# Altium schematic symbol library ICs.SchLib: 131 symbols
Pins are listed as number, name and electrical type; pins without a type are passive.

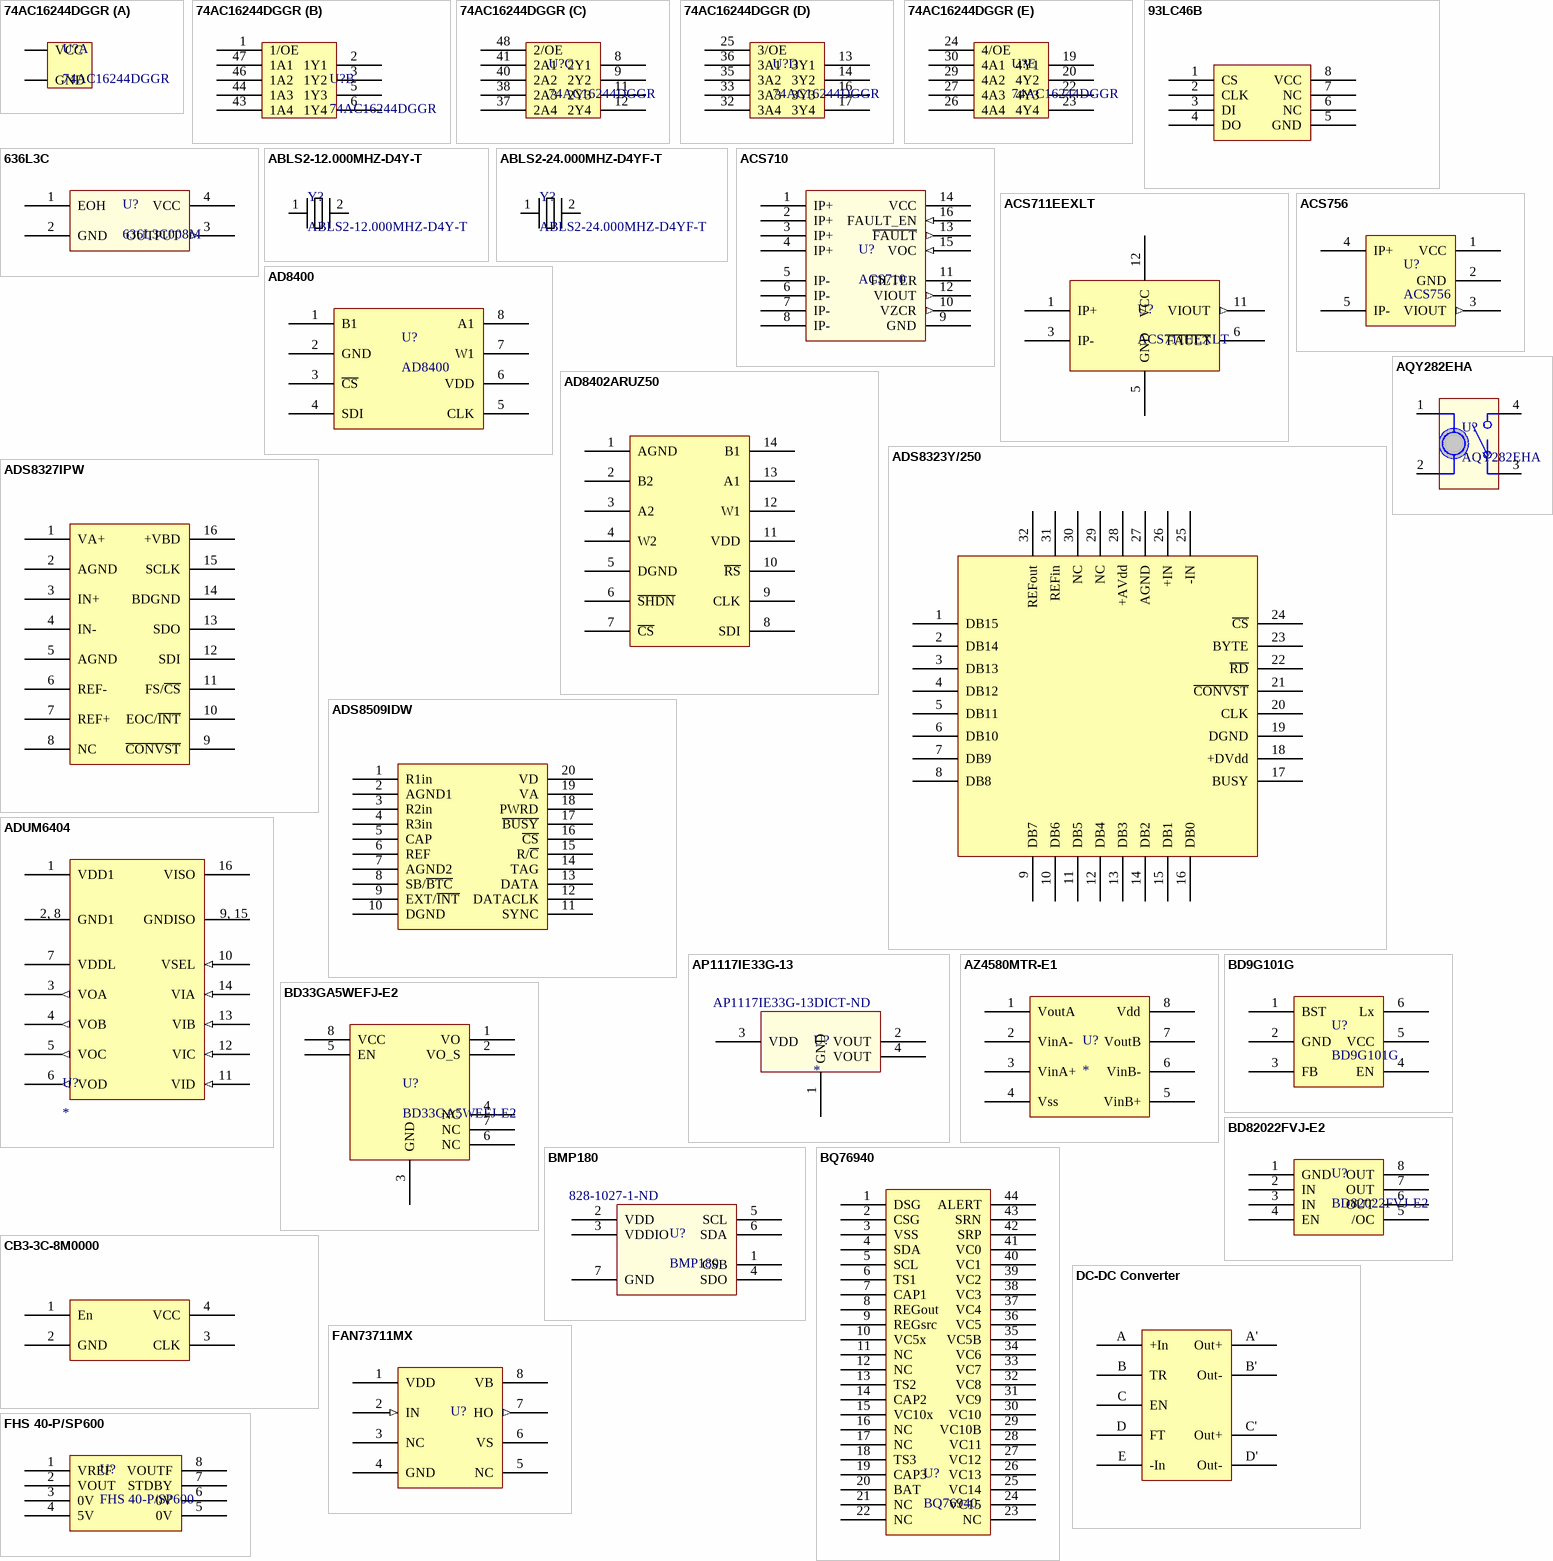
[diagram p0: symbols 74AC16244DGGR to FHS 40-P/SP600]

## 74AC16244DGGR
designator U?
IC BUFF/DVR TRI-ST 16BIT 48TSSOP; Supplier 1: Digi-Key; Supplier Part Number 1: 296-15845-1-ND
footprint 74AC16244DGGR (TSSOP, 48-Leads, Body 12.50x6.10mm, Pitch 0.50mm, IPC Medium Density)
part A pins: GND, VCC
part B pins: 1 1/OE, 2 1Y1, 3 1Y2, 5 1Y3, 6 1Y4, 43 1A4, 44 1A3, 46 1A2, 47 1A1
part C pins: 8 2Y1, 9 2Y2, 11 2Y3, 12 2Y4, 37 2A4, 38 2A3, 40 2A2, 41 2A1, 48 2/OE
part D pins: 13 3Y1, 14 3Y2, 16 3Y3, 17 3Y4, 25 3/OE, 32 3A4, 33 3A3, 35 3A2, 36 3A1
part E pins: 19 4Y1, 20 4Y2, 22 4Y3, 23 4Y4, 24 4/OE, 26 4A4, 27 4A3, 29 4A2, 30 4A1

## 93LC46B
designator U?
IC EEPROM 1KBIT 2MHZ 8SOIC; Supplier 1: Digi-Key; Supplier Part Number 1: 93LC46BT-I/SNCT-ND
footprint SOIC-8pin (For 296-1345-1-ND)
pins: 1 CS, 2 CLK, 3 DI, 4 DO, 5 GND, 6 NC, 7 NC, 8 VCC

## 636L3C
designator U?, comment 636L3C008M
HCMOS/TTL Clock Oscillator; Supplier 1: Digi-Key; Supplier Part Number 1: CTX1005CT-ND
footprint 636L3C
pins: 1 EOH, 2 GND (power), 3 OUTPUT (out), 4 VCC (power)

## ABLS2-12.000MHZ-D4Y-T
designator Y?
12MHz ±30ppm Crystal 18pF 50 Ohm -40°C ~ 85°C Surface Mount HC49/US; Supplier 1: Digi-Key; Supplier Part Number 1: 535-9869-1-ND
footprint HC49/US
pins: 1, 2

## ABLS2-24.000MHZ-D4YF-T
designator Y?
24MHz ±30ppm Crystal 18pF 40 Ohm -40°C ~ 85°C Surface Mount HC49/US; Supplier 1: Digi-Key; Supplier Part Number 1: 535-9881-1-ND
footprint HC49/US
pins: 1, 2

## ACS710
designator U?
Current Sensor with Integrated Overcurrent Detection; Supplier 1: Digi-Key; Supplier Part Number 1: 620-1334-1-ND
footprint ACS710 (SOIC, 16-Leads, Body 10.5x7.6mm (max), Pitch 1.27mm, IPC Medium Density)
footprint ACS710_NOPIN (Hacked footprint to make battery board look nice.)
pins: 1 IP+, 2 IP+, 3 IP+, 4 IP+, 5 IP-, 6 IP-, 7 IP-, 8 IP-, 9 GND (power), 10 VZCR (out), 11 FILTER, 12 VIOUT (out), 13 ~{FAULT} (out), 14 VCC (power), 15 VOC (in), 16 FAULT_EN (in)

## ACS711EEXLT
designator U?
Hall Effect Linear Current Sensor with Overcurrent  Fault Output for < 100 V Isolation Applications; Supplier 1: Digi-Key; Supplier Part Number 1: 620-1484-1-ND
footprint ACS711KEXLT
pins: 1 IP+, 3 IP-, 5 GND, 6 ~{FAULT} (oc), 11 VIOUT (out), 12 VCC (power)

## ACS756
designator U?
Hall Effect-Based Linear Current Sensor IC; Supplier 1: Digi-Key; Supplier Part Number 1: 620-1239-ND
footprint ACS756 (Hall Effect-Based Linear Current Sensor)
pins: 1 VCC (power), 2 GND (power), 3 VIOUT (out), 4 IP+, 5 IP-

## AD8400
designator U?
IC DGTL POT 8BIT 100K 1CH 8-SOIC; Supplier 1: Digi-Key; Supplier Part Number 1: AD8400ARZ100-ND
footprint SOIC-8PIN (For 296-1345-1-ND)
pins: 1 B1, 2 GND, 3 ~{CS}, 4 SDI, 5 CLK, 6 VDD, 7 W1, 8 A1

## AD8402ARUZ50
designator U?, comment 50k Pot
IC POT DIG DUAL 50K 8BIT 14TSSOP; Supplier 1: Digi-Key; Supplier Part Number 1: AD8402ARUZ50-ND
footprint TSSOP-14 (For AD8402ARUZ50-ND (Digital Pot))
pins: 1 AGND, 2 B2, 3 A2, 4 W2, 5 DGND, 6 ~{SHDN}, 7 ~{CS}, 8 SDI, 9 CLK, 10 ~{RS}, 11 VDD, 12 W1, 13 A1, 14 B1

## ADS8323Y/250
designator U?, comment ADC 16bit 500kHz
IC A/D CONV 16BIT BIPLR 32-TQFP; Supplier 1: Digi-Key; Supplier Part Number 1: ADS8323Y/250CT-ND
footprint 32-TQFP (Used for 16 bit external ADC)
pins: 1 DB15, 2 DB14, 3 DB13, 4 DB12, 5 DB11, 6 DB10, 7 DB9, 8 DB8, 9 DB7, 10 DB6, 11 DB5, 12 DB4, 13 DB3, 14 DB2, 15 DB1, 16 DB0, 17 BUSY, 18 +DVdd, 19 DGND, 20 CLK, 21 ~{CONVST}, 22 ~{RD}, 23 BYTE, 24 ~{CS}, 25 -IN, 26 +IN, 27 AGND, 28 +AVdd, 29 NC, 30 NC, 31 REFin, 32 REFout

## ADS8327IPW
designator U?
IC ADC 16BIT 500KSPS 16-TSSOP; Supplier 1: Digi-Key; Supplier Part Number 1: 296-19764-ND
footprint TSSOP-16pin (For 296-19764-ND)
pins: 1 VA+, 2 AGND, 3 IN+, 4 IN-, 5 AGND, 6 REF-, 7 REF+, 8 NC, 9 ~{CONVST}, 10 EOC/~{INT}, 11 FS/~{CS}, 12 SDI, 13 SDO, 14 BDGND, 15 SCLK, 16 +VBD

## ADS8509IDW
designator U?
IC ADC 16BIT 250KSPS SRL 20SOIC; Suppiler Part Number 1: 296-18087-5-ND; Supplier 1: Digi-Key
footprint SOIC-20pin (For 296-18087-5-ND)
pins: 1 R1in, 2 AGND1, 3 R2in, 4 R3in, 5 CAP, 6 REF, 7 AGND2, 8 SB/~{BTC}, 9 EXT/~{INT}, 10 DGND, 11 SYNC, 12 DATACLK, 13 DATA, 14 TAG, 15 R/~{C}, 16 ~{CS}, 17 ~{BUSY}, 18 PWRD, 19 VA, 20 VD

## ADUM6404
designator U?
Digital Isolator, 4 channel, with isolated power
footprint SOIC127P1030X265-16N (SOIC, 16-Leads, Body 10.30x7.50mm, Pitch 1.27mm, IPC Medium Density)
pins: 1 VDD1 (power), 2 GND1 (power), 3 VOA (out), 4 VOB (out), 5 VOC (out), 6 VOD (out), 7 VDDL (power), 8 GND1 (power), 9 GNDISO (power), 10 VSEL (in), 11 VID (in), 12 VIC (in), 13 VIB (in), 14 VIA (in), 15 GNDISO (power), 16 VISO
text: 2, 8; 9, 15

## AP1117IE33G-13
designator U?  Supplier Part Number 1: AP1117IE33G-13DICT-ND
3.3V 1A DROPOUT POSITIVE ADJUSTABLE OR FIXED-MODE REGULATOR; Supplier 1: Digi-Key
footprint AP1117IE33G-13 (SOT223, 4-Leads, Body 6.6x7.1mm (max), Pitch 2.30mm, IPC Medium Density)
pins: 1 GND (power), 2 VOUT (power), 3 VDD (power), 4 VOUT (power)

## AQY282EHA
designator U?
PhotoMOS Solid State Relay; Supplier 1: Digi-Key; Supplier Part Number 1: AQY282EHA-ND
footprint AQY282EHA (SOP, 4-Leads, Body 4.3x4.6mm (max), Pitch 2.54mm, IPC Medium Density)
pins: 1 A, 2 C, 3 S2, 4 S1

## AZ4580MTR-E1
designator U?
IC OPAMP GEN PURP SO-8; Supplier 1: Digi-Key; Supplier Part Number 1: AZ4580MTR-E1DICT-ND
footprint 8-SOIC (Used for LMH6612)
pins: 1 VoutA, 2 VinA-, 3 VinA+, 4 Vss, 5 VinB+, 6 VinB-, 7 VoutB, 8 Vdd

## BD9G101G
designator U?
Simple Step-down Switching Regulators with Built-in Power MOSFET; Supplier 1: Digi-Key; Supplier Part Number 1: BD9G101G-CT-ND
footprint BD9G101G (Simple Step-down Switching Regulators with Built-in Power MOSFET)
pins: 1 BST, 2 GND, 3 FB, 4 EN, 5 VCC, 6 Lx

## BD33GA5WEFJ-E2
designator U?
IC REG LDO 3.3V 0.5A 8HTSOP-J; Supplier 1: Digi-Key; Supplier Part Number 1: BD33GA5WEFJ-E2CT-ND
footprint BD33GA5WEFJ-E2 (IC REG LDO 3.3V 0.5A 8HTSOP-J)
pins: 1 VO, 2 VO_S, 3 GND, 4 NC, 5 EN, 6 NC, 7 NC, 8 VCC

## BD82022FVJ-E2
designator U?
IC USB PWR SW HI SIDE 1CH 8TSSOP; Manufacturer 1: Rohm Semiconductor; Manufacturer Part Number 1: BD82022FVJ-E2; Supplier Part Number 1: BD82022FVJ-E2CT-ND; Supplier 1: Digi-Key
footprint TSSOP-8 (TSOP, 8-Leads, Body 3.00x3.00mm, Pitch 0.65mm, IPC Medium Density)
pins: 1 GND, 2 IN, 3 IN, 4 EN, 5 /OC, 6 OUT, 7 OUT, 8 OUT

## BMP180
designator U?  Supplier Part Number 1: 828-1027-1-ND
Digital Pressure Sensor; Supplier 1: Digi-Key
footprint BMP180
pins: 1 CSB, 2 VDD (power), 3 VDDIO (power), 4 SDO, 5 SCL, 6 SDA, 7 GND (power)

## BQ76940
designator U?
IC BATT MFMT LI-ION AFE 44TSOP; Supplier 1: Digi-Key; Supplier Part Number 1: 296-37789-5-ND
footprint BQ7694003DBT (TSSOP, 44-Leads, Body 11.15x4.40mm, Pitch 0.50mm, IPC Medium Density)
pins: 1 DSG, 2 CSG, 3 VSS, 4 SDA, 5 SCL, 6 TS1, 7 CAP1, 8 REGout, 9 REGsrc, 10 VC5x, 11 NC, 12 NC, 13 TS2, 14 CAP2, 15 VC10x, 16 NC, 17 NC, 18 TS3, 19 CAP3, 20 BAT, 21 NC, 22 NC, 23 NC, 24 VC15, 25 VC14, 26 VC13, 27 VC12, 28 VC11, 29 VC10B, 30 VC10, 31 VC9, 32 VC8, 33 VC7, 34 VC6, 35 VC5B, 36 VC5, 37 VC4, 38 VC3, 39 VC2, 40 VC1, 41 VC0, 42 SRP, 43 SRN, 44 ALERT

## CB3-3C-8M0000
designator U?, comment 8MHz Oscillator
OSC XO 8.000MHZ HCMOS TTL SMD; Supplier 1: Digi-Key; Supplier Part Number 1: CTX264CT-ND
footprint 4-SMD (For 8MHz Oscillator)
pins: 1 En, 2 GND, 3 CLK, 4 VCC

## DC-DC Converter
designator U?
28V Switching Regulator; Manufacturer 1: Vicorpower; Manufacturer Part Number 1: DCM48AP280T320A50
footprint DCM Footprint (For DC-DC Converter Module)
pins: A +In, A' Out+, B TR, B' Out-, C EN, C' Out+, D FT, D' Out-, E -In

## FAN73711MX
designator U?  (value not drawn)
High current, High-side gate drive IC; Supplier 1: Digi-Key; Supplier Part Number 1: FAN73711MXDKR-ND
footprint FAN73711MXCT (High side FET driver)
pins: 1 VDD, 2 IN (in), 3 NC, 4 GND, 5 NC, 6 VS, 7 HO (out), 8 VB

## FHS 40-P/SP600
designator U?
Supplier 1: Digi-Key; Supplier Part Number 1: 398-1057-1-ND
footprint FHS 40-P/SP600 (SENSOR CURRENT 100A 5V BI 8SOIC)
pins: 1 VREF, 2 VOUT, 3 0V, 4 5V, 5 0V, 6 0V, 7 STDBY, 8 VOUTF

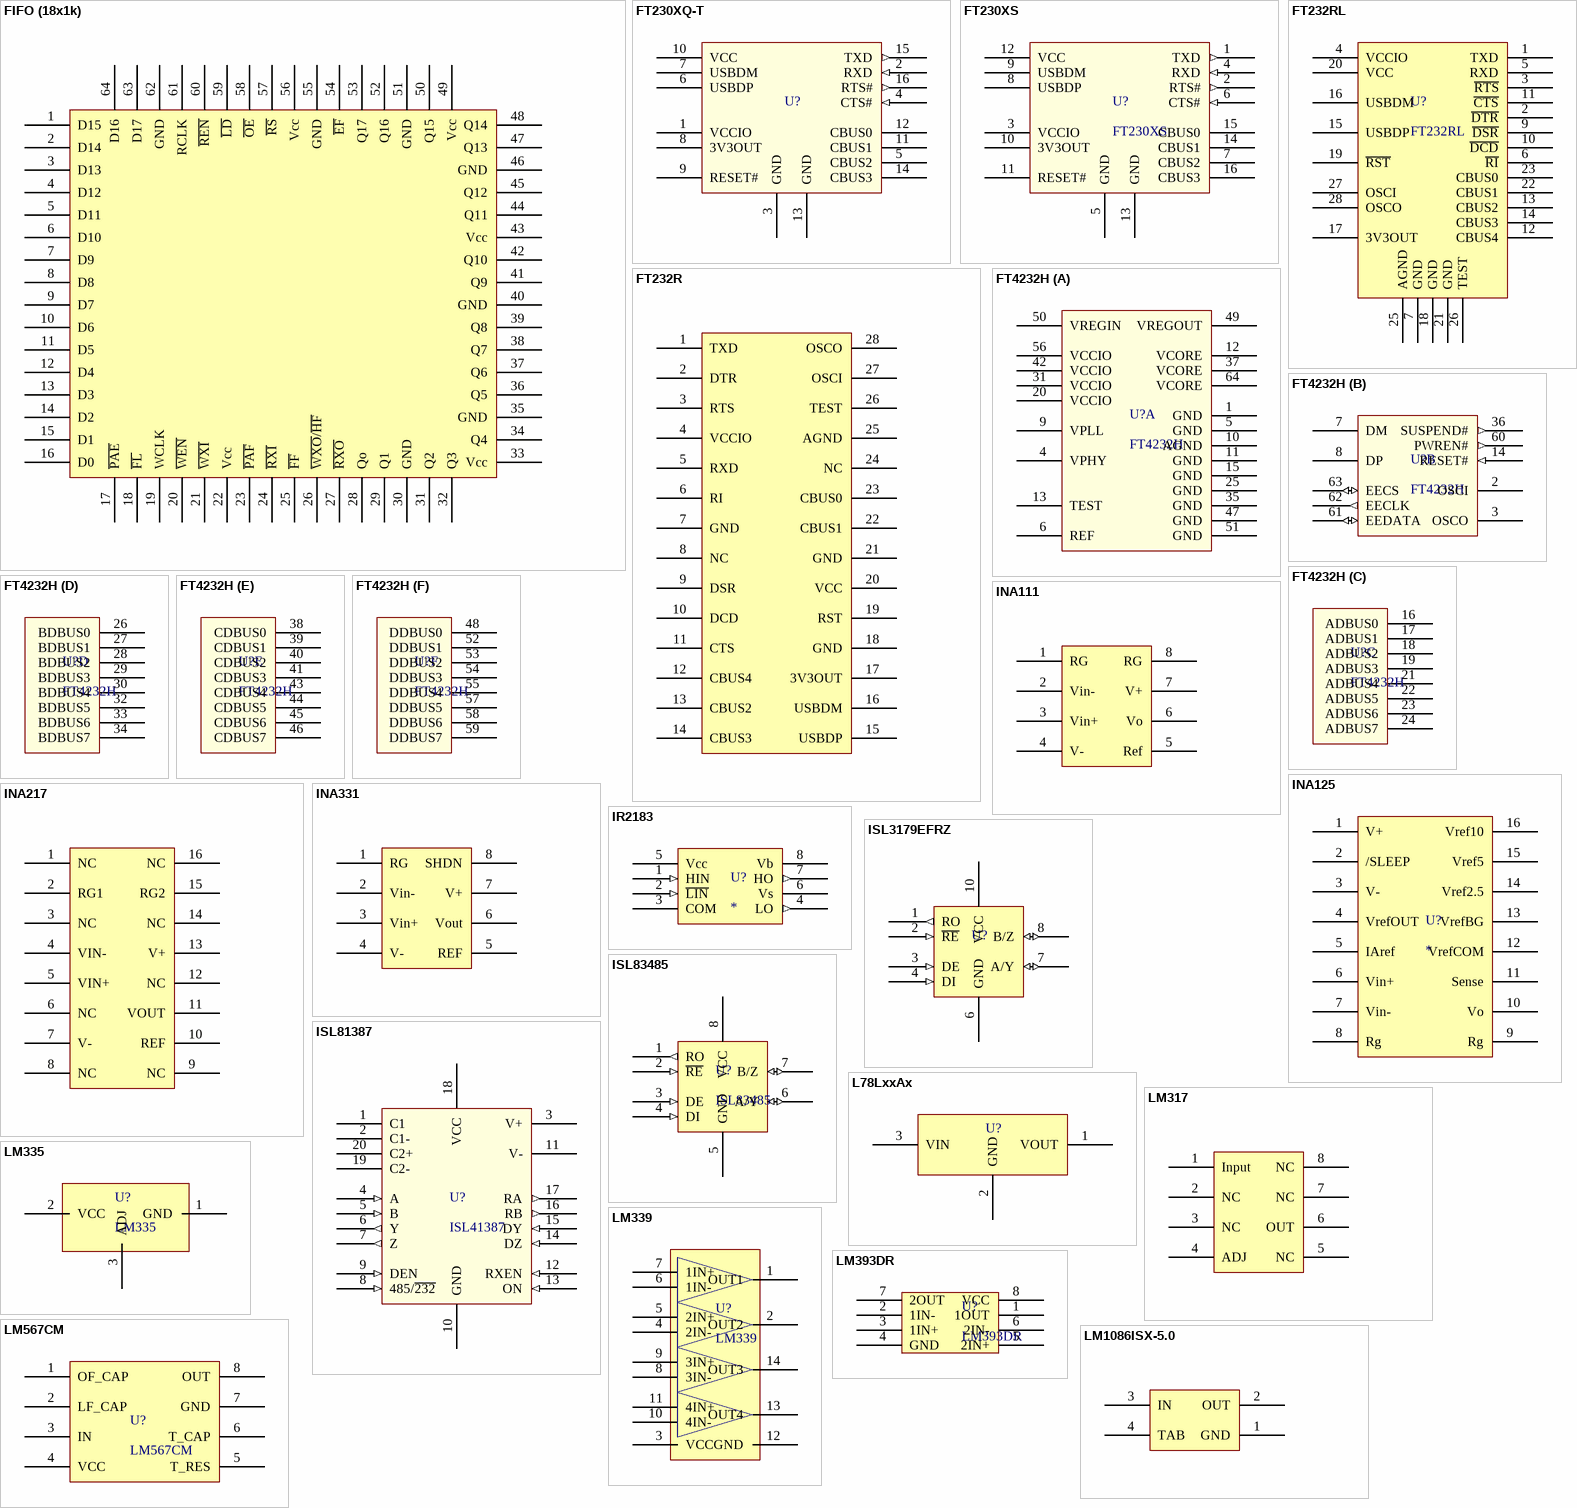
[diagram p1: symbols FIFO (18x1k) to LM1086ISX-5.0]

## FIFO (18x1k)
designator U?
IC SYNC FIFO MEM 1KX18 64LQFP; Supplier 1: Digi-Key; Supplier Part Number 1: CY7C4225-10AXI-ND
footprint 64-LQFP (For IDT 64 pin FIFO)
pins: 1 D15, 2 D14, 3 D13, 4 D12, 5 D11, 6 D10, 7 D9, 8 D8, 9 D7, 10 D6, 11 D5, 12 D4, 13 D3, 14 D2, 15 D1, 16 D0, 17 ~{PAE}, 18 ~{FL}, 19 WCLK, 20 ~{WEN}, 21 ~{WXI}, 22 Vcc, 23 ~{PAF}, 24 ~{RXI}, 25 ~{FF}, 26 ~{WXO}/~{HF}, 27 ~{RXO}, 28 Qo, 29 Q1, 30 GND, 31 Q2, 32 Q3, 33 Vcc, 34 Q4, 35 GND, 36 Q5, 37 Q6, 38 Q7, 39 Q8, 40 GND, 41 Q9, 42 Q10, 43 Vcc, 44 Q11, 45 Q12, 46 GND, 47 Q13, 48 Q14, 49 Vcc, 50 Q15, 51 GND, 52 Q16, 53 Q17, 54 ~{EF}, 55 GND, 56 Vcc, 57 ~{RS}, 58 ~{OE}, 59 ~{LD}, 60 ~{REN}, 61 RCLK, 62 GND, 63 D17, 64 D16

## FT230XQ-T
designator U?  (value not drawn)
IC USB SERIAL BASIC UART 16QFN; Supplier 1: Digi-Key; Supplier Part Number 1: 768-1153-ND
footprint FT230XQ-T (IC USB SERIAL BASIC UART 16QFN)
pins: 1 VCCIO (power), 2 RXD (in), 3 GND (power), 4 CTS# (in), 5 CBUS2, 6 USBDP, 7 USBDM, 8 3V3OUT, 9 RESET#, 10 VCC (power), 11 CBUS1, 12 CBUS0, 13 GND (power), 14 CBUS3, 15 TXD (out), 16 RTS# (out)

## FT230XS
designator U?
USB To Basic UART IC; Supplier 1: Digi-Key; Supplier Part Number 1: 768-1154-5-ND
footprint FT230XS (SOP, 16-Leads, Body 4.90x3.90mm, Pitch 0.64mm, IPC Medium Density)
pins: 1 TXD (out), 2 RTS# (out), 3 VCCIO (power), 4 RXD (in), 5 GND (power), 6 CTS# (in), 7 CBUS2, 8 USBDP, 9 USBDM, 10 3V3OUT, 11 RESET#, 12 VCC (power), 13 GND (power), 14 CBUS1, 15 CBUS0, 16 CBUS3

## FT232R
designator U?
IC USB FS SERIAL UART 28-SSOP; Supplier 1: Digi-Key; Supplier Part Number 1: 768-1007-1-ND
footprint SSOP-28 (FTDI FT232R)
pins: 1 TXD, 2 DTR, 3 RTS, 4 VCCIO, 5 RXD, 6 RI, 7 GND, 8 NC, 9 DSR, 10 DCD, 11 CTS, 12 CBUS4, 13 CBUS2, 14 CBUS3, 15 USBDP, 16 USBDM, 17 3V3OUT, 18 GND, 19 RST, 20 VCC, 21 GND, 22 CBUS1, 23 CBUS0, 24 NC, 25 AGND, 26 TEST, 27 OSCI, 28 OSCO

## FT232RL
designator U?
IC USB FS SERIAL UART 28-SSOP; Supplier Part Number 1: 768-1007-1-ND; Supplier 1: Digi-Key
footprint SSOP_28_N (For FT232RL-Tube)
pins: 1 TXD, 2 ~{DTR}, 3 ~{RTS}, 4 VCCIO, 5 RXD, 6 ~{RI}, 7 GND, 9 ~{DSR}, 10 ~{DCD}, 11 ~{CTS}, 12 CBUS4, 13 CBUS2, 14 CBUS3, 15 USBDP, 16 USBDM, 17 3V3OUT, 18 GND, 19 ~{RST}, 20 VCC, 21 GND, 22 CBUS1, 23 CBUS0, 25 AGND, 26 TEST, 27 OSCI, 28 OSCO

## FT4232H
designator U?
Quad High Speed USB to Multipurpose UART/MPSSE; Supplier 1: Digi-Key; Supplier Part Number 1: 768-1026-1-ND
footprint FT4232HL (TSQFP, 64-Leads, Body 10.00x10.00mm, Pitch 0.50mm, IPC Medium Density)
part A pins: 1 GND (power), 4 VPHY (power), 5 GND (power), 6 REF, 9 VPLL (power), 10 AGND (power), 11 GND (power), 12 VCORE (power), 13 TEST, 15 GND (power), 20 VCCIO (power), 25 GND (power), 31 VCCIO (power), 35 GND (power), 37 VCORE (power), 42 VCCIO (power), 47 GND (power), 49 VREGOUT (power), 50 VREGIN (power), 51 GND (power), 56 VCCIO (power), 64 VCORE (power)
part B pins: 2 OSCI, 3 OSCO, 7 DM, 8 DP, 14 RESET# (in), 36 SUSPEND# (out), 60 PWREN# (out), 61 EEDATA (io), 62 EECLK (out), 63 EECS (io)
part C pins: 16 ADBUS0, 17 ADBUS1, 18 ADBUS2, 19 ADBUS3, 21 ADBUS4, 22 ADBUS5, 23 ADBUS6, 24 ADBUS7
part D pins: 26 BDBUS0, 27 BDBUS1, 28 BDBUS2, 29 BDBUS3, 30 BDBUS4, 32 BDBUS5, 33 BDBUS6, 34 BDBUS7
part E pins: 38 CDBUS0, 39 CDBUS1, 40 CDBUS2, 41 CDBUS3, 43 CDBUS4, 44 CDBUS5, 45 CDBUS6, 46 CDBUS7
part F pins: 48 DDBUS0, 52 DDBUS1, 53 DDBUS2, 54 DDBUS3, 55 DDBUS4, 57 DDBUS5, 58 DDBUS6, 59 DDBUS7

## INA111
designator U?, comment Instr. Amp
IC OPAMP INSTR 2MHZ 8DIP; Supplier 1: Digi-Key; Supplier Part Number 1: INA111AP-ND
footprint DIP8
pins: 1 RG, 2 Vin-, 3 Vin+, 4 V-, 5 Ref, 6 Vo, 7 V+, 8 RG

## INA125
designator U?
Instrumentation Amplifier; Supplier 1: Digi-Key; Supplier Part Number 1: INA125UA-ND
footprint SOIC127P600X175-16N (SOIC, 16-Leads, Body 9.90x3.90mm, Pitch 1.27mm, IPC Medium Density)
pins: 1 V+, 2 /SLEEP, 3 V-, 4 VrefOUT, 5 IAref, 6 Vin+, 7 Vin-, 8 Rg, 9 Rg, 10 Vo, 11 Sense, 12 VrefCOM, 13 VrefBG, 14 Vref2.5, 15 Vref5, 16 Vref10

## INA217
designator U?
IC OPAMP INSTR 3.4MHZ 16SOIC; Supplier 1: Digi-Key; Supplier Part Number 1: 296-13645-1-ND
footprint SOIC-16
pins: 1 NC, 2 RG1, 3 NC, 4 VIN-, 5 VIN+, 6 NC, 7 V-, 8 NC, 9 NC, 10 REF, 11 VOUT, 12 NC, 13 V+, 14 NC, 15 RG2, 16 NC

## INA331
designator U?, comment Inst. Amp
IC OPAMP INSTR 2MHZ RRO 8VSSOP; Suplier Part Number 1: 296-12202-1-ND; Supplier 1: Digi-Key
footprint TSSOP-8n
pins: 1 RG, 2 Vin-, 3 Vin+, 4 V-, 5 REF, 6 Vout, 7 V+, 8 SHDN

## IR2183
designator U?
Half-Bridge Driver; Supplier 1: Digi-Key; Supplier Part Number 1: IR2183SPBF-ND
footprint IR2183S
pins: 1 HIN (in), 2 ~{LIN} (in), 3 COM (power), 4 LO (out), 5 Vcc (power), 6 Vs (power), 7 HO (out), 8 Vb

## ISL3179EFRZ
designator U?  (value not drawn)
TXRX ESD 3.3V RS-485/422 10-DFN; Supplier 1: Digi-Key; Supplier Part Number 1: ISL3179EFRZ-ND
footprint ISL3179EFRZ (TXRX ESD 3.3V RS-485/422 10-DFN)
footprint ISL3179EFRZ_NO_VIAS (TXRX ESD 3.3V RS-485/422 10-DFN)
pins: 1 RO (out), 2 ~{RE} (in), 3 DE (in), 4 DI (in), 6 GND (power), 7 A/Y (io), 8 B/Z (io), 10 VCC (power)

## ISL81387
designator U?, comment ISL41387
5V RS-232/RS-485 Transceiver
footprint ISL81387IAZ (SOP, 20-Leads, Body 7.3x5.4mm (max), Pitch 0.65mm, IPC Medium Density)
pins: 1 C1, 2 C1-, 3 V+, 4 A (in), 5 B (in), 6 Y (out), 7 Z (out), 8 485/~{232} (in), 9 DEN (in), 10 GND (power), 11 V-, 12 RXEN (in), 13 ON (in), 14 DZ (in), 15 DY (in), 16 RB (out), 17 RA (out), 18 VCC (power), 19 C2-, 20 C2+

## ISL83485
designator U?
3.3V RS485 Transceiver; Supplier 1: Digi-Key; Supplier Part Number 1: ISL83485IBZ-ND
footprint ISL8348xIBZ (SOIC, 8-Leads, Body 4.90x3.90mm, Pitch 1.27mm, IPC Medium Density)
pins: 1 RO (out), 2 ~{RE} (in), 3 DE (in), 4 DI (in), 5 GND (power), 6 A/Y (io), 7 B/Z (io), 8 VCC (power)

## L78LxxAx
designator U?, comment L78L15AC  (value not drawn)
Positive Voltage Regulator; Supplier 1: Digi-Key; Supplier Part Number 1: 497-13129-ND
footprint L78LxxAxZ (Positive voltage regulator TO-92)
footprint L78LxxAxUTR (SOT89, 3-Leads, Body 4.50x2.45mm, Pitch 1.50mm, Lead Span 4.1mm, IPC Medium Density)
pins: 1 VOUT, 2 GND (power), 3 VIN

## LM317
designator U?
IC REG LDO ADJ 0.1A 8SOIC; Supplier 1: Digi-Key; Supplier Part Number 1: 296-26092-5-ND
footprint SOIC-8N (LM317 Footprint)
pins: 1 Input, 2 NC, 3 NC, 4 ADJ, 5 NC, 6 OUT, 7 NC, 8 NC

## LM335
designator U?
IC SENSOR PRECISION TEMP TO92-3; Supplier: Digikey; Supplier Part Number: LM335ZNS/NOPB-ND
footprint LM335 (IC SENSOR PRECISION TEMP TO92-3)
pins: 1 GND, 2 VCC, 3 ADJ

## LM339
designator U?
IC QUAD DIFF COMPARATOR 14-TSSOP; Supplier 1: Digi-Key; Supplier Part Number 1: 296-18454-1-ND
footprint LM339 (TSOP, 14-Leads, Body 5.00x4.40mm, Pitch 0.65mm, IPC Medium Density)
pins: 1 OUT1, 2 OUT2, 3 VCC, 4 2IN-, 5 2IN+, 6 1IN-, 7 1IN+, 8 3IN-, 9 3IN+, 10 4IN-, 11 4IN+, 12 GND, 13 OUT4, 14 OUT3

## LM393DR
designator U?
LM393DR Comparator; Supplier 1: Digi-key; Supplier Part Number 1: 296-1015-1-ND
footprint LM393DR
pins: 1 1OUT, 2 1IN-, 3 1IN+, 4 GND, 5 2IN+, 6 2IN-, 7 2OUT, 8 VCC

## LM567CM
designator U?
IC TONE DECODR PHAS LOC LP 8SOIC; Supplier Part Number 1: LM567CM/NOPB-ND; Supplier 1: Digi-Key
footprint SOIC-8PIN (For 296-1345-1-ND)
pins: 1 OF_CAP, 2 LF_CAP, 3 IN, 4 VCC, 5 T_RES, 6 T_CAP, 7 GND, 8 OUT

## LM1086ISX-5.0
designator U?, comment 5V LDO Regulator
IC REG LDO 5V 1.5A DDPAK; Supplier Part Number 1: LM1086ISX-5.0/NOPBCT-ND; Supplier 1: Digi-Key
footprint DPAK254P1435X464-4N (D2-PAK, 4-Pads, Body 7.55x8.56mm (max), IPC Medium Density)
pins: 1 GND, 2 OUT, 3 IN, 4 TAB

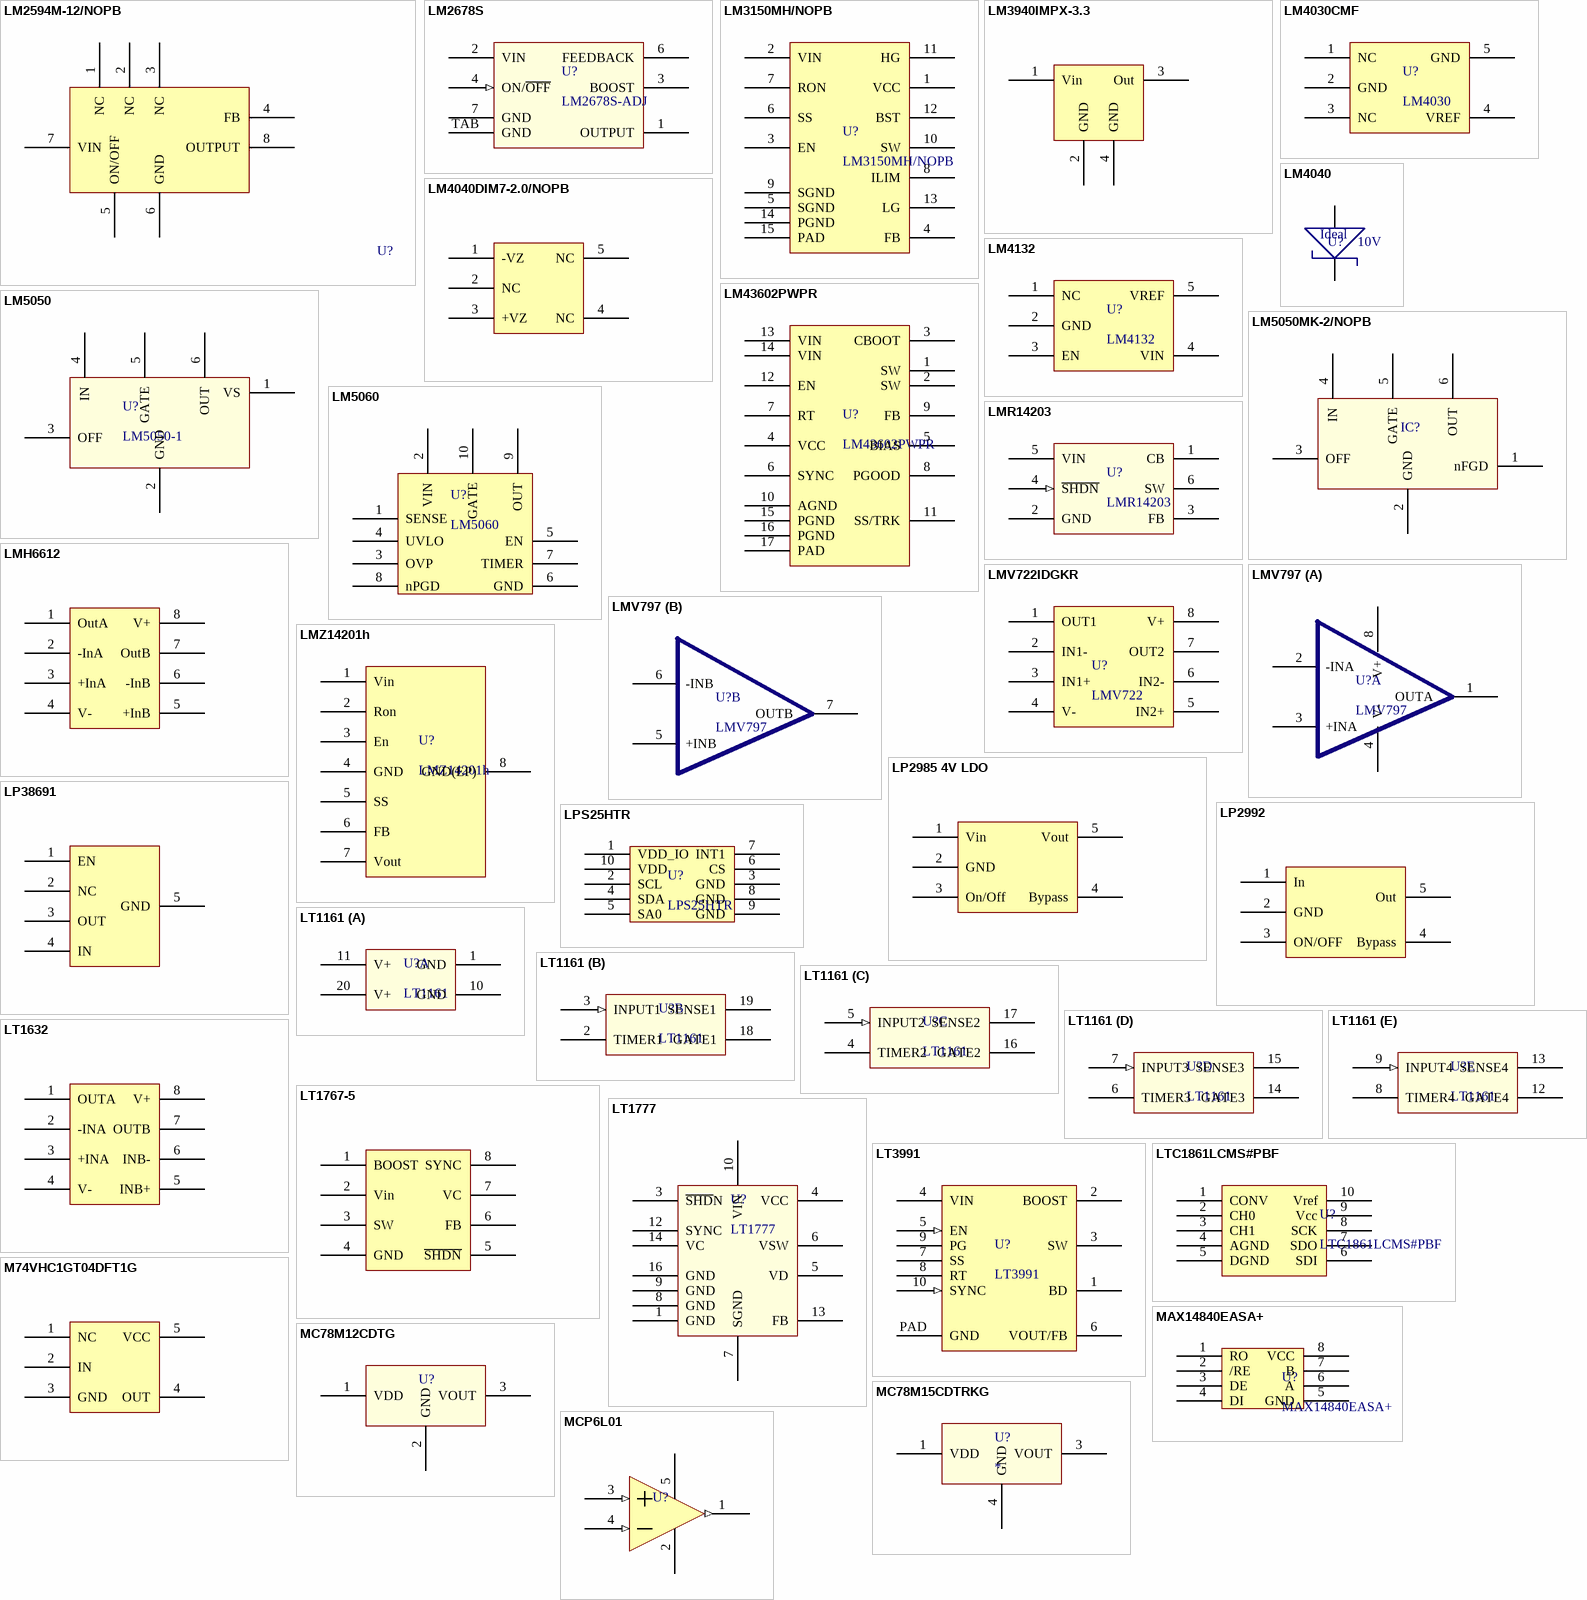
[diagram p2: symbols LM2594M-12/NOPB to MCP6L01]

## LM2594M-12/NOPB
designator U?  (value not drawn)
IC REG BUCK 12V 0.5A 8-SOIC; Supplier 1: Digi-Key; Supplier Part Number 1: LM2594M-12/NOPB-ND
footprint LM2594M-12/NOPB (IC REG BUCK 12V 0.5A 8-SOIC)
pins: 1 NC, 2 NC, 3 NC, 4 FB, 5 ON/OFF, 6 GND, 7 VIN, 8 OUTPUT

## LM2678S
designator U?, comment LM2678S-ADJ
Simple Switcher High Efficiency 5A Step-Down Voltage Regulator; Supplier 1: Digi-Key; Supplier Part Number 1: LM2678SX-ADJ/NOPBCT-ND
footprint LM2678S
pins: 1 OUTPUT, 2 VIN (power), 3 BOOST, 4 ON/~{OFF} (in), 6 FEEDBACK (power), 7 GND (power), TAB GND (power)

## LM3150MH/NOPB
designator U?
IC REG CTRLR BUCK 14TSSOP; Manufacturer 1: Texas Instruments; Manufacturer Part Number 1: LM3150MH/NOPB; Supplier Part Number 1: LM3150MH/NOPB-ND; Supplier 1: Digi-Key
footprint TSSOP-14 EP (TSOP, 14-Leads, Body 5.00x4.40mm, Pitch 0.65mm, Thermal Pad 3.10x3.00mm, IPC Medium Density)
pins: 1 VCC, 2 VIN, 3 EN, 4 FB, 5 SGND, 6 SS, 7 RON, 8 ILIM, 9 SGND, 10 SW, 11 HG, 12 BST, 13 LG, 14 PGND, 15 PAD

## LM3940IMPX-3.3
designator U?, comment 3.3V LDO Reg
IC REG LDO 3.3V 1A SOT223; Supplier 1: Digi-Key; Supplier Part Number 1: LM3940IMPX-3.3/NOPBCT-ND
footprint SOT23-4n (SOT223, 4-Leads, Body 6.50x7.00mm (avg), Pitch 2.30mm, IPC Medium Density)
pins: 1 Vin, 2 GND, 3 Out, 4 GND

## LM4030CMF
designator U?, comment LM4030
LM4030CMF-2.5/NOPB; Supplier 1: Digi-Key; Supplier Part Number 1: LM4030CMF-2.5/NOPBCT-ND
footprint SOT23-5 (Used for LP2992)
pins: 1 NC, 2 GND, 3 NC, 4 VREF, 5 GND

## LM4040
designator U?  Reverse Breakdown Voltage: 10V  (hidden comment: LM4040)
LM4040AIM3-10.0/NOPBCT; Supplier 1: Digi-Key; Supplier Part Number 1: LM4040AIM3-10.0/NOPBCT-ND
footprint LM4040 (SOT23, 3-Leads, Body 2.92x2.37mm, Pitch 0.95mm, IPC Medium Density)
pins: 1 Anode, 2 Cathode
text: Ideal

## LM4040DIM7-2.0/NOPB
designator U?, comment VRef 2.048V
IC VREF SHUNT 2.048V SC70; Supplier 1: Digi-Key; Supplier Part Number 1: 296-38736-1-ND
footprint SOT35-5pin (For 296-38736-1-ND)
pins: 1 -VZ, 2 NC, 3 +VZ, 4 NC, 5 NC

## LM4132
designator U?
IC VREF SERIES 2.5V SOT23-5; Supplier 1: Digi-Key; Supplier Part Number 1: LM4132AMF-2.5/NOPBCT-ND
footprint SOT23-5 (Used for LP2992)
pins: 1 NC, 2 GND, 3 EN, 4 VIN, 5 VREF

## LM5050
designator U?, comment LM5050-1
High-Side OR-ing FET Controller; Supplier 1: Digi-Key; Supplier Part Number 1: LM5050MK-1/NOPBCT-ND
footprint LM5050 (SOT23, 6-Leads, Body 2.90x2.80mm, Pitch 0.95mm, IPC Medium Density)
pins: 1 VS, 2 GND, 3 OFF, 4 IN, 5 GATE, 6 OUT

## LM5050MK-2/NOPB
designator IC?  (value not drawn)
IC OR CTRLR N+1 6SOT; Supplier 1: Digi-Key; Supplier Part Number 1: LM5050MK-2/NOPBDKR-ND
footprint LM5050MK-2/NOPB (IC OR CTRLR N+1 6SOT)
pins: 1 nFGD, 2 GND, 3 OFF, 4 IN, 5 GATE, 6 OUT

## LM5060
designator U?
Hotswap Controller; Supplier 1: Digi-Key; Supplier Part Number 1: LM5060Q1MM/NOPBCT-ND
footprint LM5060 (10-VSSOP)
pins: 1 SENSE, 2 VIN, 3 OVP, 4 UVLO, 5 EN, 6 GND, 7 TIMER, 8 nPGD, 9 OUT, 10 GATE

## LM43602PWPR
designator U?
IC REG BUCK ADJ 2A SYNC 16HTSSOP; Manufacturer 1: Texas Instruments; Manufacturer Part Number 1: LM43602PWPR; Supplier Part Number 1: 296-37754-1-ND; Supplier 1: Digi-Key
footprint TSSOP-16 EP (TSOP, 16-Leads, Body 5.00x4.40mm, Pitch 0.65mm, Thermal Pad 3.29x2.41mm, IPC Medium Density)
pins: 1 SW, 2 SW, 3 CBOOT, 4 VCC, 5 BIAS, 6 SYNC, 7 RT, 8 PGOOD, 9 FB, 10 AGND, 11 SS/TRK, 12 EN, 13 VIN, 14 VIN, 15 PGND, 16 PGND, 17 PAD

## LMH6612
designator U?
IC OPAMP GP 130MHZ RRO 8SOIC; Supplier Part Number 1: LMH6612MA/NOPB-ND; Supplier 1: Digi-Key
footprint 8-SOIC (Used for LMH6612)
pins: 1 OutA, 2 -InA, 3 +InA, 4 V-, 5 +InB, 6 -InB, 7 OutB, 8 V+

## LMR14203
designator U?
Simple Switcher 42Vin 0.3A Step-Down Voltage Regulator; Supplier 1: Digi-Key; Supplier Part Number 1: LMR14203XMKE/NOPBCT-ND
footprint SOT95P280X110-6N (SOT23, 6-Leads, Body 2.90x2.80mm, Pitch 0.95mm, IPC Medium Density)
pins: 1 CB, 2 GND (power), 3 FB, 4 ~{SHDN} (in), 5 VIN, 6 SW

## LMV722IDGKR
designator U?, comment LMV722
IC OPAMP GP 10MHZ RRO 8VSSOP; Supplier 1: Digi-Key; Supplier Part Number 1: 296-27988-1-ND
footprint TSSOP-8N(2) (For LMV722)
pins: 1 OUT1, 2 IN1-, 3 IN1+, 4 V-, 5 IN2+, 6 IN2-, 7 OUT2, 8 V+

## LMV797
designator U?
IC OPAMP GP 17MHZ RRO 8VSSOP; Supplier 1: Digi-Key; Supplier Part Number 1: LMV797MM/NOPBCT-ND
footprint TSSOP-8N
part A pins: 1 OUTA   , 2 -INA, 3 +INA, 4 V-, 8 V+
part B pins: 5 +INB, 6 -INB, 7 OUTB   

## LMZ14201h
designator U?
IC BUCK SYNC ADJ 1A TO-PMOD-7; Supplier 1: Digi-Key; Supplier Part Number 1: LMZ14201HTZX/NOPBCT-ND
footprint TO-PMOD-7 (For LMZ14201h)
pins: 1 Vin, 2 Ron, 3 En, 4 GND, 5 SS, 6 FB, 7 Vout, 8 GND(EP)

## LP2985 4V LDO
designator U?, comment 4V LDO
IC REG LDO 4V 0.15A SOT23-5; Supplier 1: Digi-Key; Supplier Part Number 1: LP2985IM5-4.0/NOPBCT-ND
footprint SOT23-5pin (For LP2985IM5-4.0/NOPBCT-ND)
pins: 1 Vin, 2 GND, 3 On/Off, 4 Bypass, 5 Vout

## LP2992
designator U?
IC REG LDO 5V 0.25A SOT23-5; Supplier 1: Digi-Key; Supplier Part Number 1: LP2992IM5-5.0/NOPBCT-ND
footprint SOT23-5 (Used for LP2992)
pins: 1 In, 2 GND, 3 ON/OFF, 4 Bypass, 5 Out

## LP38691
designator U?, comment 3.3V LDO REG
IC REG LDO 3.3V 0.5A SOT223-5; Supplier 1: Digi-Key; Supplier Part Number 1: LP38693MP-3.3/NOPBCT-ND
footprint SOT223-8N (3.3V LDO)
pins: 1 EN, 2 NC, 3 OUT, 4 IN, 5 GND

## LPS25HTR
designator U?
IC MEMS PRESSURE SENSOR 10HCLGA; Supplier: Digikey; Supplier Part Number: 497-14380-1-ND
footprint LPS25HTR (IC MEMS PRESSURE SENSOR 10HCLGA)
pins: 1 VDD_IO, 2 SCL, 3 GND, 4 SDA, 5 SA0, 6 CS, 7 INT1, 8 GND, 9 GND, 10 VDD

## LT1161
designator U?
Quad Protected High-Side MOSFET Driver; Supplier 1: Digi-Key; Supplier Part Number 1: LT1161CSW#PBF-ND
part A pins: 1 GND (power), 10 GND (power), 11 V+ (power), 20 V+
part B pins: 2 TIMER1, 3 INPUT1 (in), 18 GATE1, 19 SENSE1
part C pins: 4 TIMER2, 5 INPUT2 (in), 16 GATE2, 17 SENSE2
part D pins: 6 TIMER3, 7 INPUT3 (in), 14 GATE3, 15 SENSE3
part E pins: 8 TIMER4, 9 INPUT4 (in), 12 GATE4, 13 SENSE4

## LT1632
designator U?
IC OPAMP GP 45MHZ RRO 8SO; Supplier 1: Digi-Key; Supplier Part Number 1: LT1632CS8#PBF-ND
footprint SOIC127P600-8N (For LT1632)
pins: 1 OUTA, 2 -INA, 3 +INA, 4 V-, 5 INB+, 6 INB-, 7 OUTB, 8 V+

## LT1767-5
designator U?
IC REG BUCK 5V 1.5A 8MSOP; Supplier 1: Digi-Key; Supplier Part Number 1: LT1767EMS8-5#PBF-ND
footprint MSOP-8n (LT1767)
pins: 1 BOOST, 2 Vin, 3 SW, 4 GND, 5 ~{SHDN}, 6 FB, 7 VC, 8 SYNC

## LT1777
designator U?
Low Noise Step-Down Switching Regulator; Supplier 1: Digi-Key; Supplier Part Number 1: LT1777CS#PBF-ND
pins: 1 GND (power), 3 ~{SHD}N, 4 VCC (power), 5 VD, 6 VSW, 7 SGND (power), 8 GND (power), 9 GND (power), 10 VIN (power), 12 SYNC, 13 FB, 14 VC, 16 GND (power)

## LT3991
designator U?
55V, 1.2A Step-Down Regulator with 2.8uA Quiescent Current; Supplier 1: Digi-Key; Supplier Part Number 1: LT3991EMSE#PBF-ND
footprint LTS3991MSE (TSSOP, 10-Leads, Body 3.1x3.1mm (max), Pitch 0.50mm, IPC Medium Density)
footprint LT3991DD (QFN, 10-Leads, Body 3.00x3.00mm, Pitch 0.50mm, Thermal Pad 2.38x1.65mm, IPC Medium Density)
pins: 1 BD, 2 BOOST, 3 SW, 4 VIN (power), 5 EN (in), 6 VOUT/FB, 7 SS, 8 RT, 9 PG (oc), 10 SYNC (in), PAD GND

## LTC1861LCMS#PBF
designator U?
IC ADC 2CH 12B 3V 150KSPS 10MSOP; Supplier 1: Digi-Key; Supplier Part Number 1: LTC1861LCMS#PBF-ND
footprint LTC1861LCMS#PBF (TSSOP, 10-Leads, Body 3.00x3.00mm, Pitch 0.50mm, IPC Medium Density)
pins: 1 CONV, 2 CH0, 3 CH1, 4 AGND, 5 DGND, 6 SDI, 7 SDO, 8 SCK, 9 Vcc, 10 Vref

## M74VHC1GT04DFT1G
designator U?, comment Level Shifter
IC GATE INVERTER SNGL 1IN SOT353; Supplier Part Number 1: M74VHC1GT04DFT1GOSCT-ND; Supplier 1: Digi-Key
footprint SOT23127P600-8N (Logic Level Shifter)
pins: 1 NC, 2 IN, 3 GND, 4 OUT, 5 VCC

## MAX14840EASA+
designator U?
TXRX 40MBPS RS485/RS422 8-SOIC; Supplier 1: Digi-Key; Supplier Part Number 1: MAX14840EASA+-ND
footprint MAX14840EASA+ (SOIC, 8-Leads, Body 4.90x3.90mm, Pitch 1.27mm, IPC Medium Density)
pins: 1 RO, 2 /RE, 3 DE, 4 DI, 5 GND, 6 A, 7 B, 8 VCC

## MC78M12CDTG
designator U?  (value not drawn)
IC REG LDO 12V 0.5A DPAK; Supplier 1: Digi-Key; Supplier Part Number 1: MC78M12CDTGOS-ND
footprint MC78M12CDTG (IC REG LDO 12V 0.5A DPAK)
pins: 1 VDD (power), 2 GND (power), 3 VOUT (power)

## MC78M15CDTRKG
designator U?
15V 500 mA Positive Voltage Regulator; Supplier 1: Digi-Key; Supplier Part Number 1: MC78M15CDTRKGOSCT-ND
footprint MC78M00
pins: 1 VDD (power), 3 VOUT (power), 4 GND (power)

## MCP6L01
designator U?  (value not drawn)
Op Amp Rail-to-Rail 1Mhz; Supplier 1: Digi-Key; Supplier Part Number 1: MCP6L01T-E/OTCT-ND
footprint MCP6L01R (SOT23, 5-Leads, Body 2.90x2.70mm, Pitch 0.95mm, IPC Medium Density)
pins: 1 VOUT (out), 2 VSS (power), 3 VIN+ (in), 4 VIN- (in), 5 VDD (power)

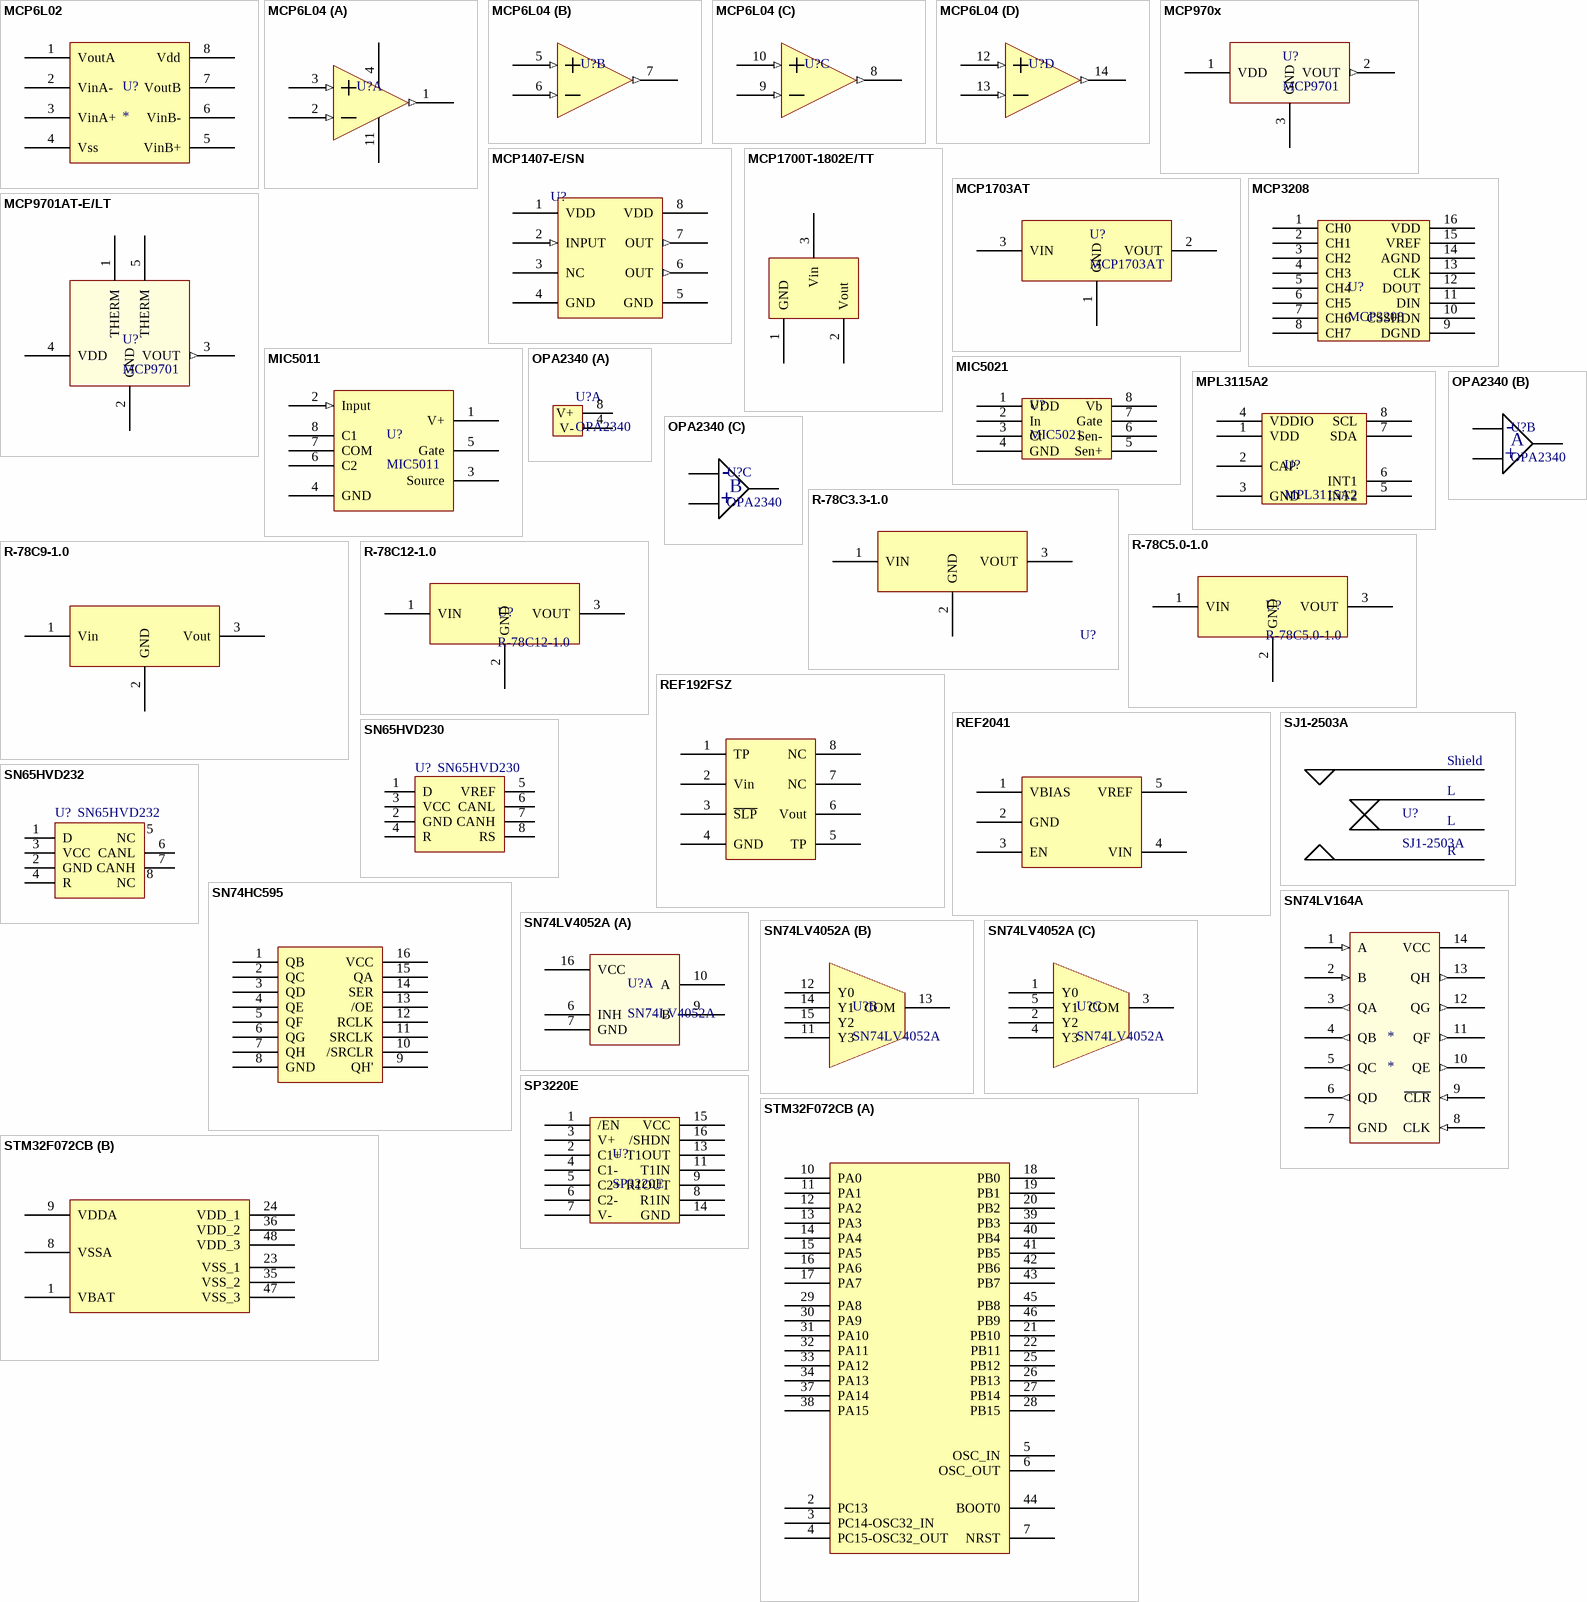
[diagram p3: symbols MCP6L02 to STM32F072CB]

## MCP6L02
designator U?
IC OPAMP GP 1MHZ RRO 8SOIC; Supplier 1: Digi-Key; Supplier Part Number 1: MCP6L02T-E/SNCT-ND
footprint 8-SOIC (Used for LMH6612)
footprint 8-SOIC (Used for LMH6612)
pins: 1 VoutA, 2 VinA-, 3 VinA+, 4 Vss, 5 VinB+, 6 VinB-, 7 VoutB, 8 Vdd

## MCP6L04
designator U?  (value not drawn)
Quad Op Amp Rail-to-Rail 1Mhz; Supplier 1: Digi-Key
part A pins: 1 VOUTA (out), 2 VINA- (in), 3 VINA+ (in), 4 VDD (power), 11 VSS (power)
part B pins: 5 VINB+ (in), 6 VINB- (in), 7 VOUTB (out)
part C pins: 8 VOUTC (out), 9 VINC- (in), 10 VINC+ (in)
part D pins: 12 VIND+ (in), 13 VIND- (in), 14 VOUTD (out)

## MCP970x
designator U?, comment MCP9701
Low-Power Linear Active Thermistor ICs; Supplier 1: Digi-Key; Supplier Part Number 1: MCP9701A-E/TO-ND
footprint MCP970x-E/TO (Low-Power Linear Active Thermistor ICs)
footprint MCP970X-E/TT (SOT23, 3-Leads, Body 2.86x2.37mm, Pitch 0.95mm, IPC Medium Density)
pins: 1 VDD (power), 2 VOUT (out), 3 GND (power)

## MCP1407-E/SN
designator U?  (value not drawn)
6A High speed MOSFET driver low side; Supplier 1: Digi-Key; Supplier Part Number 1: MCP1407-E/SN-ND
footprint MCP1407-E/SN (Low side FET driver)
pins: 1 VDD, 2 INPUT (in), 3 NC, 4 GND, 5 GND, 6 OUT (out), 7 OUT (out), 8 VDD

## MCP1700T-1802E/TT
designator U?, comment MCP1700T
IC REG LDO 1.8V 0.2A SOT23-3; Supplier 1: Digi-Key; Supplier Part Number 1: MCP1700T1802ETTCT-ND
footprint SOT23-3 (For 1.8V LDO)
pins: 1 GND, 2 Vout, 3 Vin

## MCP1703AT
designator U?
250 mA, 16V, Low Quiescent Current LDO Regulator; Supplier 1: Digi-Key; Supplier Part Number 1: MCP1703AT-3302E/CBCT-ND
footprint MCP1703AT-xx02EDB (SOT23, 3-Leads, Body 2.90x2.55mm, Pitch 0.95mm, IPC Medium Density)
pins: 1 GND (power), 2 VOUT, 3 VIN

## MCP3208
designator U?
IC ADC 12BIT 2.7V 8CH SPI 16SOIC; Supplier 1: Digi-Key; Supplier Part Number 1: MCP3208-CI/SL-ND
footprint MCP3208-CI/SL (IC ADC 12BIT 2.7V 8CH SPI 16SOIC)
pins: 1 CH0, 2 CH1, 3 CH2, 4 CH3, 5 CH4, 6 CH5, 7 CH6, 8 CH7, 9 DGND, 10 CSSHDN, 11 DIN, 12 DOUT, 13 CLK, 14 AGND, 15 VREF, 16 VDD

## MCP9701AT-E/LT
designator U?, comment MCP9701
Low-Power Linear Active Thermistor ICs; Supplier 1: Digi-Key; Supplier Part Number 1: MCP9701AT-E/LTCT-ND
footprint MCP9701AT-E/LT (SOT23, 5-Leads, Body 2.3x2.4mm (max), Pitch 0.65mm, IPC Medium Density)
pins: 1 THERM, 2 GND (power), 3 VOUT (out), 4 VDD (power), 5 THERM

## MIC5011
designator U?
Minimum Parts High- or Low-Side MOSFET Driver; Supplier 1: Digi-Key; Supplier Part Number 1: 576-1230-ND
footprint MIC5011 (SOIC, 8-Leads, Body 4.90x3.90mm, Pitch 1.27mm, IPC Medium Density)
pins: 1 V+ (power), 2 Input (in), 3 Source, 4 GND (power), 5 Gate, 6 C2, 7 COM, 8 C1

## MIC5021
designator U?
IC DRIVER MOSFET HISIDE HS 8SOIC; Supplier 1: Digi-Key; Supplier Part Number 1: 576-1239-1-ND
footprint MIC5021 (SOIC, 8-Leads, Body 4.90x3.90mm, Pitch 1.27mm, IPC Medium Density)
pins: 1 VDD, 2 In, 3 Ct, 4 GND, 5 Sen+, 6 Sen-, 7 Gate, 8 Vb

## MPL3115A2
designator U?
IC ALTIMETER I2C VERSION 8LGA; Supplier 1: Digi-Key; Supplier Part Number 1: MPL3115A2R1CT-ND
footprint MPL3115A2 (LGA, 8-Leads, Body 2.65x4.65mmx1.20mm, Pitch 1.00mm)
pins: 1 VDD, 2 CAP, 3 GND, 4 VDDIO, 5 INT2, 6 INT1, 7 SDA, 8 SCL

## OPA2340
designator U?
IC OPAMP GP 5.5MHZ RRO 8SOIC; Supplier 1: Digi-Key; Supplier Part Number 1: 296-26254-1-ND
footprint OPA2340 (SOIC, 8-Leads, Body 4.90x3.90mm, Pitch 1.27mm, IPC Medium Density)
part A pins: 4 V-, 8 V+
part B pins: 1 AOut, 2 AIn-, 3 AIn+
part C pins: 5 BIn+, 6 BIn-, 7 BOut
part B text: -; A; +
part C text: -; B; +

## R-78C3.3-1.0
designator U?  (value not drawn)
CONV DC/DC 1A 3.3V OUT SIP VERT; Supplier 1: Digi-Key; Supplier Part Number 1: 945-1394-5-ND
footprint R-78C3.3-1.0 (CONV DC/DC 1A 3.3V OUT SIP VERT)
pins: 1 VIN, 2 GND (power), 3 VOUT

## R-78C5.0-1.0
designator U?
CONV DC/DC 1A 5V OUT SIP VERT; Supplier 1: Digi-Key; Supplier Part Number 1: 945-1395-5-ND
footprint R-78C5.0-1.0 (CONV DC/DC 1A 5V OUT SIP VERT)
pins: 1 VIN, 2 GND (power), 3 VOUT

## R-78C9-1.0
designator U?, comment R-78C9.0-1.0
945-1396-5-ND; Supplier 1: Digi-Key; Supplier Part Number 1: 945-1396-5-ND
footprint R-78C12-1.0 (CONV DC/DC 1A 12V OUT SIP VERT)
pins: 1 Vin, 2 GND, 3 Vout

## R-78C12-1.0
designator U?
CONV DC/DC 1A 12V OUT SIP VERT; Supplier 1: Digi-Key; Supplier Part Number 1: 945-1392-5-ND
footprint R-78C12-1.0 (CONV DC/DC 1A 12V OUT SIP VERT)
pins: 1 VIN, 2 GND (power), 3 VOUT

## REF192FSZ
designator U?, comment 2.5V Ref
IC VREF SERIES 2.5V 8SOIC; Supplier 1: Digi-Key; Supplier Part Number 1: REF192FSZ-ND
footprint SOIC2.5-8n (For 2.5V ref IC)
pins: 1 TP, 2 Vin, 3 ~{SLP}, 4 GND, 5 TP, 6 Vout, 7 NC, 8 NC

## REF2041
designator U?
IC VREF SERIES 2.05V/4.096V 5SOT; Supplier 1: Digi-Key; Supplier Part Number 1: 296-38497-1-ND
footprint SOT23-5 (Used for LP2992)
pins: 1 VBIAS, 2 GND, 3 EN, 4 VIN, 5 VREF

## SJ1-2503A
designator U?
CONN JACK STEREO 2.5MM R/A; Supplier 1: Digi-Key; Supplier Part Number 1: CP1-2503A-ND
footprint Stereo_Jack_3.5
pins: 1 Shield, 2 L1, 3 L2, 4 R
text: L

## SN65HVD230
designator U?
3.3V CAN Bus Transceiver
pins: 1 D, 2 GND, 3 VCC, 4 R, 5 VREF, 6 CANL, 7 CANH, 8 RS

## SN65HVD232
designator U?
3.3V CAN Bus Transceiver
footprint SOIC-8pin (For 296-1345-1-ND)
pins: 1 D, 2 GND, 3 VCC, 4 R, 5 NC, 6 CANL, 7 CANH, 8 NC

## SN74HC595
designator U?
IC 8BIT SHIFT REG 3ST-OUT 16SOIC; Supplier 1: Digi-Key; Supplier Part Number 1: 296-14858-1-ND
footprint TSSOP-16pin (For 296-19764-ND)
pins: 1 QB, 2 QC, 3 QD, 4 QE, 5 QF, 6 QG, 7 QH, 8 GND, 9 QH', 10 /SRCLR, 11 SRCLK, 12 RCLK, 13 /OE, 14 SER, 15 QA, 16 VCC

## SN74LV164A
designator *
8-Bit Parallel out Serial Shift Register; Supplier 1: Digi-Key; Supplier Part Number 1: 296-1680-5-ND
footprint SN74LV164AD (SOIC, 14-Leads, Body 8.65x3.90mm, Pitch 1.27mm, IPC Medium Density)
pins: 1 A (in), 2 B (in), 3 QA (out), 4 QB (out), 5 QC (out), 6 QD (out), 7 GND (power), 8 CLK (in), 9 ~{CLR} (in), 10 QE (out), 11 QF (out), 12 QG (out), 13 QH (out), 14 VCC (power)

## SN74LV4052A
designator U?
Dual 4-Channel Analog Multiplexers/Demultiplexers; Supplier 1: Digi-Key; Supplier Part Number 1: 296-16707-1-ND
footprint SN74LV4052AD (SOIC, 16-Leads, Body 10.0x4.0mm (max), Pitch 1.27mm, IPC Medium Density)
part A pins: 6 INH, 7 GND, 9 B, 10 A, 16 VCC (power)
part B pins: 11 Y3, 12 Y0, 13 COM, 14 Y1, 15 Y2
part C pins: 1 Y0, 2 Y2, 3 COM, 4 Y3, 5 Y1

## SP3220E
designator U?
IC DVR/RCVR RS232 ESD 16TSSOP; Supplier 1: Digi-Key; Supplier Part Number 1: 1016-1920-1-ND
footprint SP3220ECY-L/TR (TSOP, 16-Leads, Body 5.00x4.40mm, Pitch 0.65mm, IPC Medium Density)
pins: 1 /EN, 2 C1+, 3 V+, 4 C1-, 5 C2+, 6 C2-, 7 V-, 8 R1IN, 9 R1OUT, 11 T1IN, 13 T1OUT, 14 GND, 15 VCC, 16 /SHDN

## STM32F072CB
designator U?
MCU 32BIT 128KB FLASH 48LQFP; Supplier 1: Digi-Key; Supplier Part Number 1: 497-14645-ND
footprint STM32F072CB (TSQFP, 48-Leads, Body 7.00x7.00mm, Pitch 0.50mm, IPC Medium Density)
part A pins: 2 PC13, 3 PC14-OSC32_IN, 4 PC15-OSC32_OUT, 5 OSC_IN, 6 OSC_OUT, 7 NRST, 10 PA0, 11 PA1, 12 PA2, 13 PA3, 14 PA4, 15 PA5, 16 PA6, 17 PA7, 18 PB0, 19 PB1, 20 PB2, 21 PB10, 22 PB11, 25 PB12, 26 PB13, 27 PB14, 28 PB15, 29 PA8, 30 PA9, 31 PA10, 32 PA11, 33 PA12, 34 PA13, 37 PA14, 38 PA15, 39 PB3, 40 PB4, 41 PB5, 42 PB6, 43 PB7, 44 BOOT0, 45 PB8, 46 PB9
part B pins: 1 VBAT, 8 VSSA, 9 VDDA, 23 VSS_1, 24 VDD_1, 35 VSS_2, 36 VDD_2, 47 VSS_3, 48 VDD_3

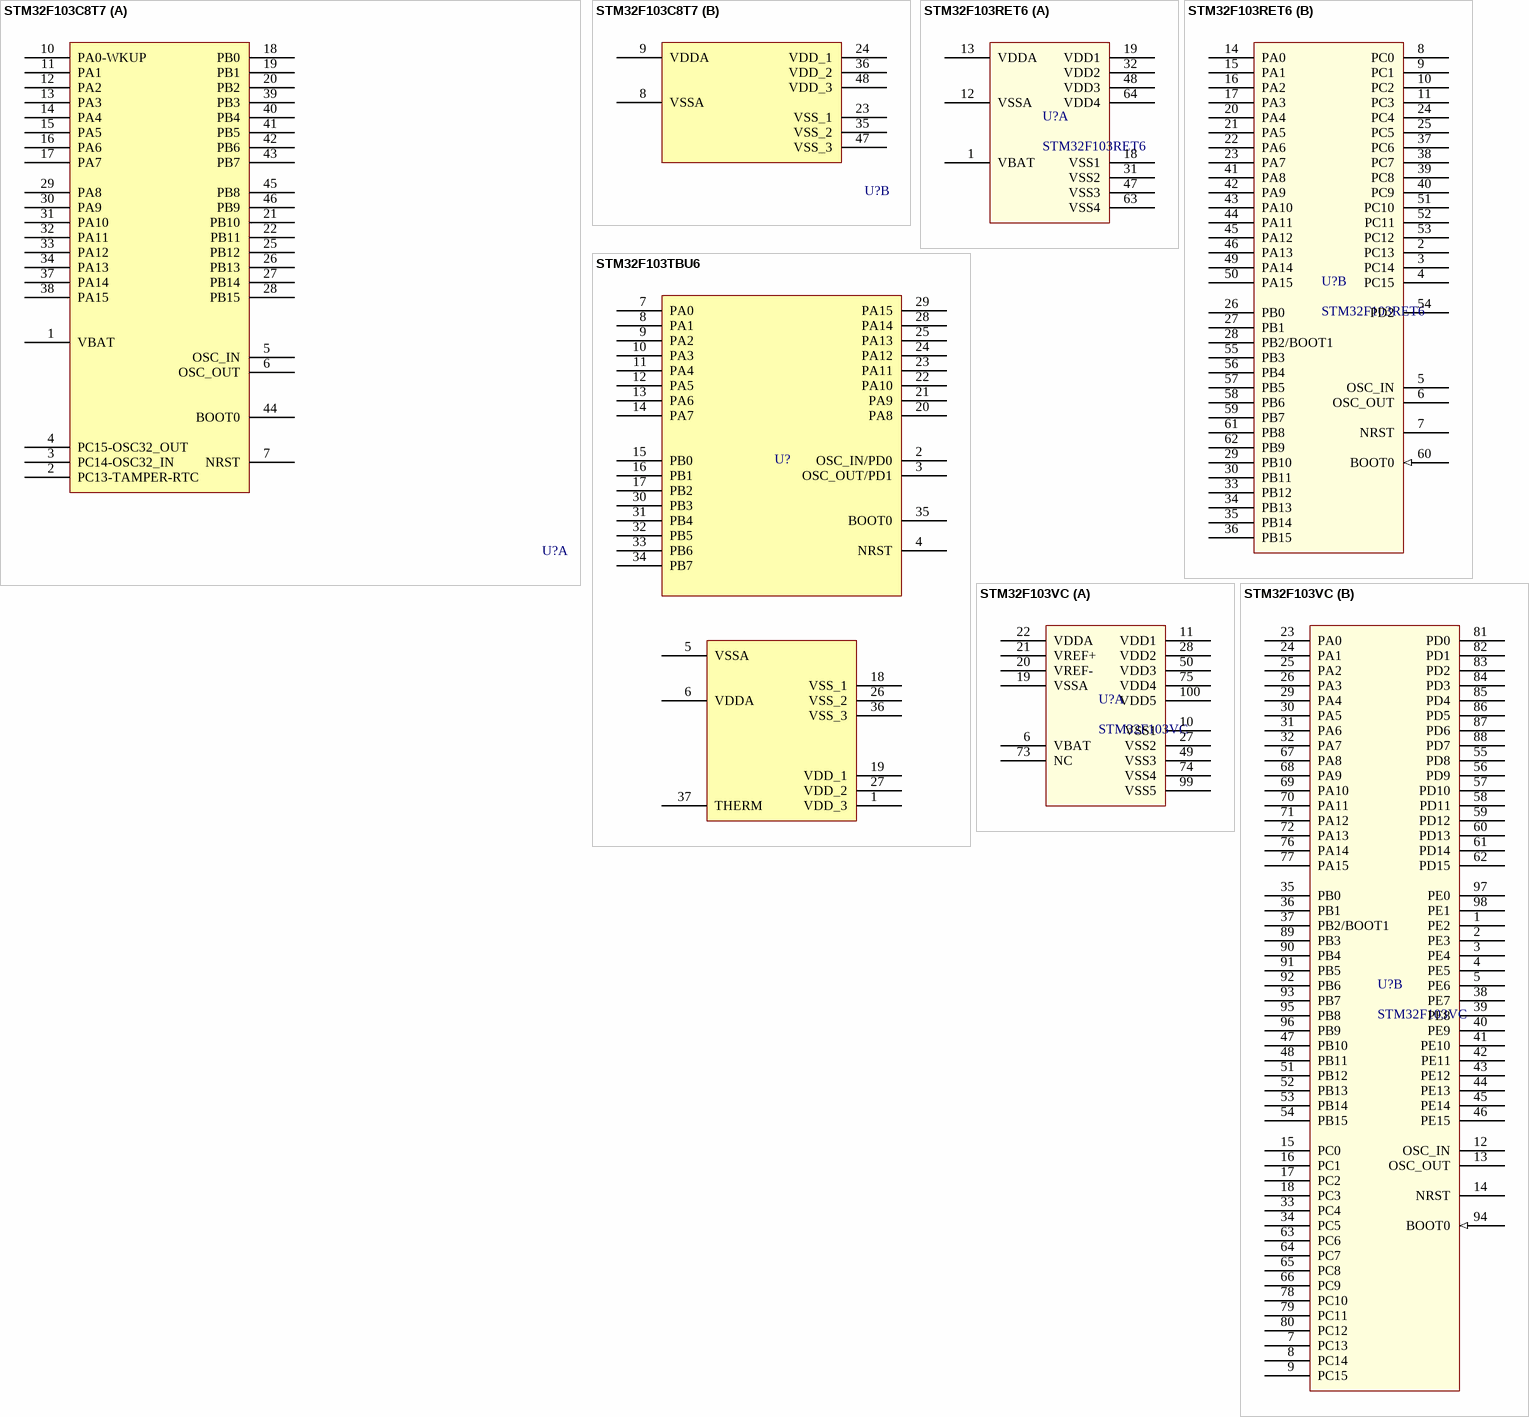
[diagram p4: symbols STM32F103C8T7 to STM32F103VC]

## STM32F103C8T7
designator U?  (value not drawn)
MCU ARM 32BIT 64K FLASH 48-LQFP; Supplier 1: Digi-Key; Supplier Part Number 1: 497-11517-ND
footprint STM32F103C8T7 (MCU ARM 32BIT 64K FLASH 48-LQFP)
part A pins: 1 VBAT, 2 PC13-TAMPER-RTC, 3 PC14-OSC32_IN, 4 PC15-OSC32_OUT, 5 OSC_IN, 6 OSC_OUT, 7 NRST, 10 PA0-WKUP, 11 PA1, 12 PA2, 13 PA3, 14 PA4, 15 PA5, 16 PA6, 17 PA7, 18 PB0, 19 PB1, 20 PB2, 21 PB10, 22 PB11, 25 PB12, 26 PB13, 27 PB14, 28 PB15, 29 PA8, 30 PA9, 31 PA10, 32 PA11, 33 PA12, 34 PA13, 37 PA14, 38 PA15, 39 PB3, 40 PB4, 41 PB5, 42 PB6, 43 PB7, 44 BOOT0, 45 PB8, 46 PB9
part B pins: 8 VSSA, 9 VDDA, 23 VSS_1, 24 VDD_1, 35 VSS_2, 36 VDD_2, 47 VSS_3, 48 VDD_3

## STM32F103RET6
designator U?
Mainstream Performance line, ARM Cortex-M3 MCU
footprint STM32F103RxTx (TSQFP, 64-Leads, Body 12.2x12.2mm (max), Pitch 0.50mm, IPC Medium Density)
part A pins: 1 VBAT (power), 12 VSSA (power), 13 VDDA (power), 18 VSS1 (power), 19 VDD1 (power), 31 VSS2 (power), 32 VDD2 (power), 47 VSS3 (power), 48 VDD3 (power), 63 VSS4 (power), 64 VDD4 (power)
part B pins: 2 PC13, 3 PC14, 4 PC15, 5 OSC_IN, 6 OSC_OUT, 7 NRST, 8 PC0, 9 PC1, 10 PC2, 11 PC3, 14 PA0, 15 PA1, 16 PA2, 17 PA3, 20 PA4, 21 PA5, 22 PA6, 23 PA7, 24 PC4, 25 PC5, 26 PB0, 27 PB1, 28 PB2/BOOT1, 29 PB10, 30 PB11, 33 PB12, 34 PB13, 35 PB14, 36 PB15, 37 PC6, 38 PC7, 39 PC8, 40 PC9, 41 PA8, 42 PA9, 43 PA10, 44 PA11, 45 PA12, 46 PA13, 49 PA14, 50 PA15, 51 PC10, 52 PC11, 53 PC12, 54 PD2, 55 PB3, 56 PB4, 57 PB5, 58 PB6, 59 PB7, 60 BOOT0 (in), 61 PB8, 62 PB9

## STM32F103TBU6
designator U?  (value not drawn)
MCU ARM 32BIT 32K FLASH 36VFQFP; Supplier 1: Digi-Key; Supplier Part Number 1: 497-11534-ND
footprint STM32F103TBU6 (MCU ARM 32BIT 128KB 36VFQFPN)
footprint STM32F103TBU6_NO_VIAS (MCU ARM 32BIT 128KB 36VFQFPN)
pins: 1 VDD_3, 2 OSC_IN/PD0, 3 OSC_OUT/PD1, 4 NRST, 5 VSSA, 6 VDDA, 7 PA0, 8 PA1, 9 PA2, 10 PA3, 11 PA4, 12 PA5, 13 PA6, 14 PA7, 15 PB0, 16 PB1, 17 PB2, 18 VSS_1, 19 VDD_1, 20 PA8, 21 PA9, 22 PA10, 23 PA11, 24 PA12, 25 PA13, 26 VSS_2, 27 VDD_2, 28 PA14, 29 PA15, 30 PB3, 31 PB4, 32 PB5, 33 PB6, 34 PB7, 35 BOOT0, 36 VSS_3, 37 THERM

## STM32F103VC
designator U?
Mainstream Performance line, ARM Cortex-M3 MCU; Supplier 1: Digi-Key; Supplier Part Number 1: 497-9034-ND
footprint STM32F103VC (STM32F103 LQFP100 package)
part A pins: 6 VBAT (power), 10 VSS1 (power), 11 VDD1 (power), 19 VSSA (power), 20 VREF- (power), 21 VREF+ (power), 22 VDDA (power), 27 VSS2 (power), 28 VDD2 (power), 49 VSS3 (power), 50 VDD3 (power), 73 NC (hiz), 74 VSS4 (power), 75 VDD4 (power), 99 VSS5 (power), 100 VDD5 (power)
part B pins: 1 PE2, 2 PE3, 3 PE4, 4 PE5, 5 PE6, 7 PC13, 8 PC14, 9 PC15, 12 OSC_IN, 13 OSC_OUT, 14 NRST, 15 PC0, 16 PC1, 17 PC2, 18 PC3, 23 PA0, 24 PA1, 25 PA2, 26 PA3, 29 PA4, 30 PA5, 31 PA6, 32 PA7, 33 PC4, 34 PC5, 35 PB0, 36 PB1, 37 PB2/BOOT1, 38 PE7, 39 PE8, 40 PE9, 41 PE10, 42 PE11, 43 PE12, 44 PE13, 45 PE14, 46 PE15, 47 PB10, 48 PB11, 51 PB12, 52 PB13, 53 PB14, 54 PB15, 55 PD8, 56 PD9, 57 PD10, 58 PD11, 59 PD12, 60 PD13, 61 PD14, 62 PD15, 63 PC6, 64 PC7, 65 PC8, 66 PC9, 67 PA8, 68 PA9, 69 PA10, 70 PA11, 71 PA12, 72 PA13, 76 PA14, 77 PA15, 78 PC10, 79 PC11, 80 PC12, 81 PD0, 82 PD1, 83 PD2, 84 PD3, 85 PD4, 86 PD5, 87 PD6, 88 PD7, 89 PB3, 90 PB4, 91 PB5, 92 PB6, 93 PB7, 94 BOOT0 (in), 95 PB8, 96 PB9, 97 PE0, 98 PE1

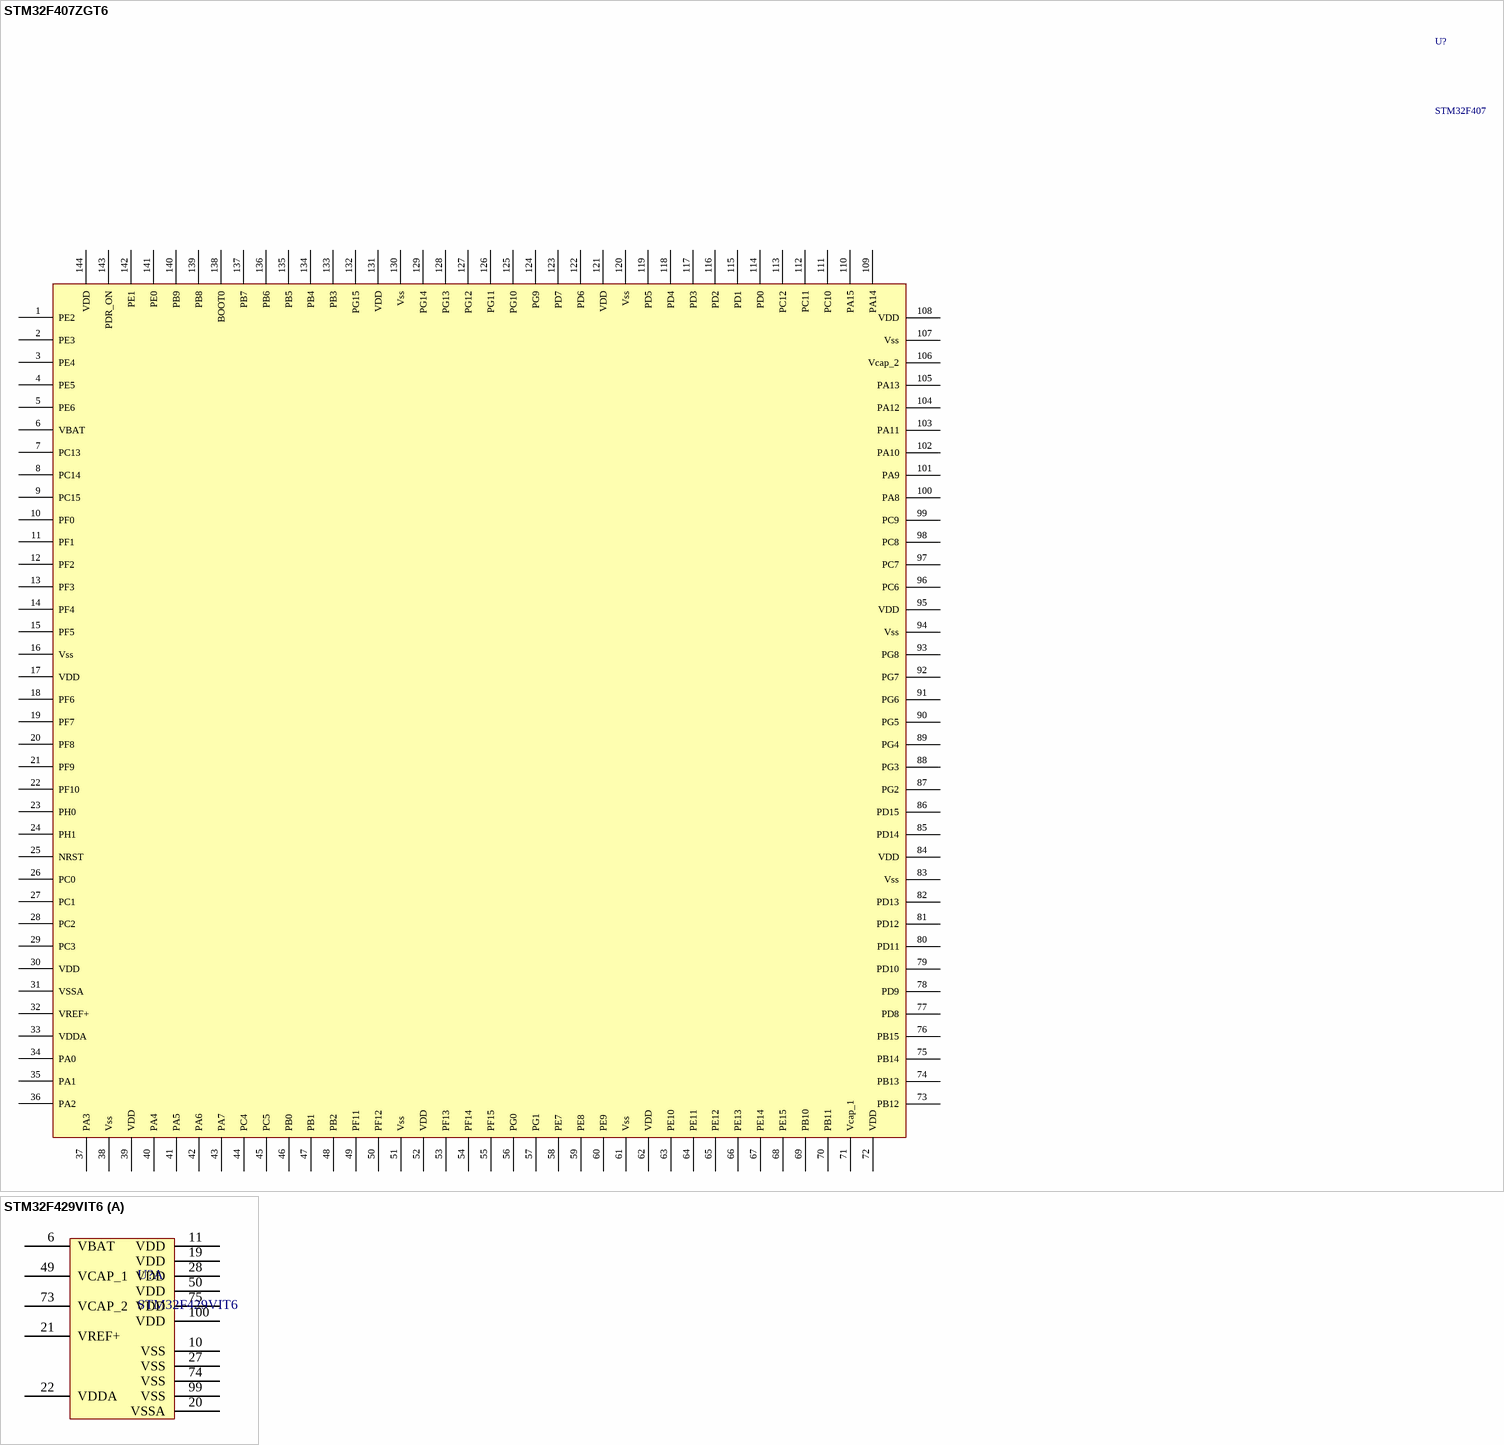
[diagram p5: symbols STM32F407ZGT6 to STM32F429VIT6]

## STM32F407ZGT6
designator U?, comment STM32F407
IC MCU 32BIT 1MB FLASH 144LQFP; Supplier 1: Digi-Key; Supplier Part Number 1: 497-11766-ND
footprint LQFP-144 (For STM32F407)
pins: 1 PE2, 2 PE3, 3 PE4, 4 PE5, 5 PE6, 6 VBAT, 7 PC13, 8 PC14, 9 PC15, 10 PF0, 11 PF1, 12 PF2, 13 PF3, 14 PF4, 15 PF5, 16 Vss, 17 VDD, 18 PF6, 19 PF7, 20 PF8, 21 PF9, 22 PF10, 23 PH0, 24 PH1, 25 NRST, 26 PC0, 27 PC1, 28 PC2, 29 PC3, 30 VDD, 31 VSSA, 32 VREF+, 33 VDDA, 34 PA0, 35 PA1, 36 PA2, 37 PA3, 38 Vss, 39 VDD, 40 PA4, 41 PA5, 42 PA6, 43 PA7, 44 PC4, 45 PC5, 46 PB0, 47 PB1, 48 PB2, 49 PF11, 50 PF12, 51 Vss, 52 VDD, 53 PF13, 54 PF14, 55 PF15, 56 PG0, 57 PG1, 58 PE7, 59 PE8, 60 PE9, 61 Vss, 62 VDD, 63 PE10, 64 PE11, 65 PE12, 66 PE13, 67 PE14, 68 PE15, 69 PB10, 70 PB11, 71 Vcap_1, 72 VDD, 73 PB12, 74 PB13, 75 PB14, 76 PB15, 77 PD8, 78 PD9, 79 PD10, 80 PD11, 81 PD12, 82 PD13, 83 Vss, 84 VDD, 85 PD14, 86 PD15, 87 PG2, 88 PG3, 89 PG4, 90 PG5, 91 PG6, 92 PG7, 93 PG8, 94 Vss, 95 VDD, 96 PC6, 97 PC7, 98 PC8, 99 PC9, 100 PA8, 101 PA9, 102 PA10, 103 PA11, 104 PA12, 105 PA13, 106 Vcap_2, 107 Vss, 108 VDD, 109 PA14, 110 PA15, 111 PC10, 112 PC11, 113 PC12, 114 PD0, 115 PD1, 116 PD2, 117 PD3, 118 PD4, 119 PD5, 120 Vss, 121 VDD, 122 PD6, 123 PD7, 124 PG9, 125 PG10, 126 PG11, 127 PG12, 128 PG13, 129 PG14, 130 Vss, 131 VDD, 132 PG15, 133 PB3, 134 PB4, 135 PB5, 136 PB6, 137 PB7, 138 BOOT0, 139 PB8, 140 PB9, 141 PE0, 142 PE1, 143 PDR_ON, 144 VDD

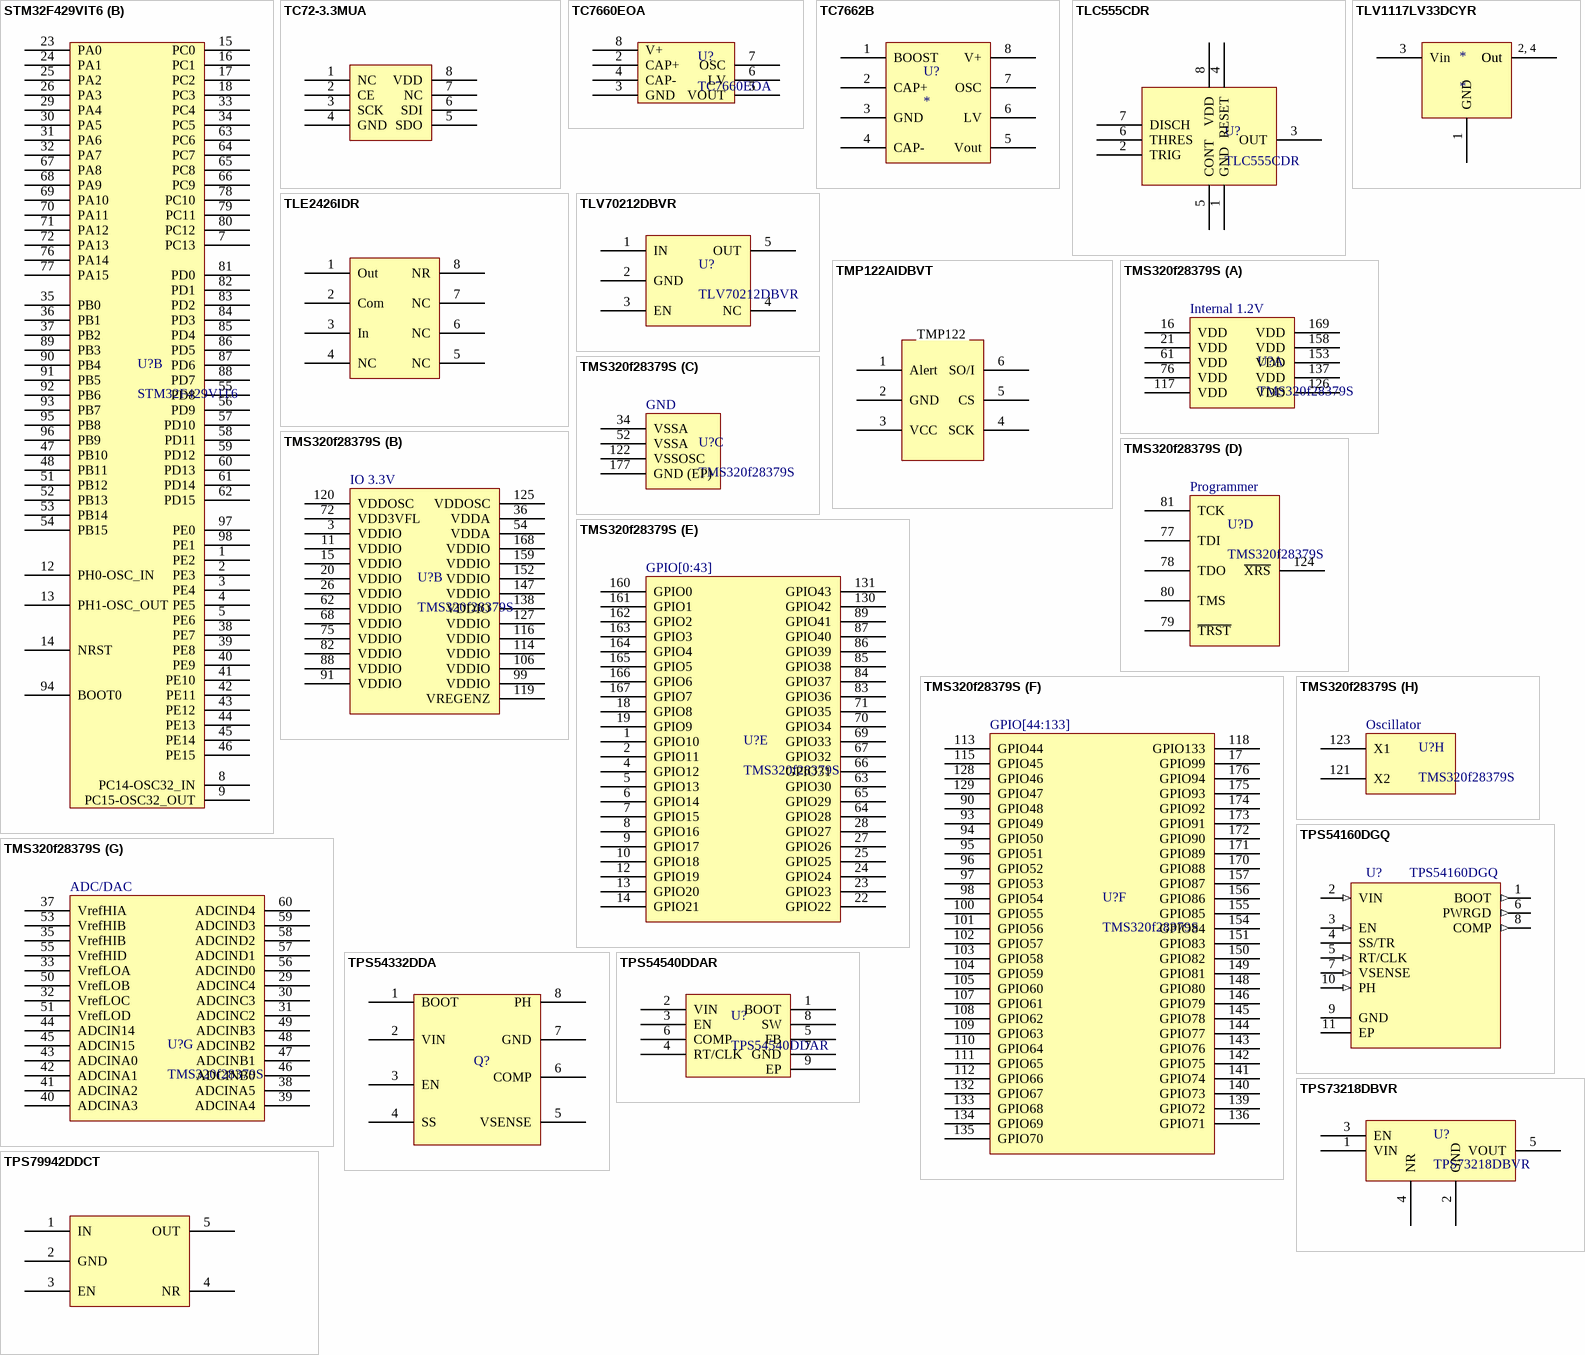
[diagram p6: symbols STM32F429VIT6 to TPS79942DDCT]

## STM32F429VIT6
designator U?
IC MCU ARM 2MB FLASH 100LQFP; Supplier 1: Digi-Key; Supplier Part Number 1: 497-14052-ND
footprint STM32F429VIT6 (TSQFP, 100-Leads, Body 14.00x14.00mm, Pitch 0.50mm, IPC Medium Density)
part A pins: 6 VBAT, 10 VSS, 11 VDD, 19 VDD, 20 VSSA, 21 VREF+, 22 VDDA, 27 VSS, 28 VDD, 49 VCAP_1, 50 VDD, 73 VCAP_2, 74 VSS, 75 VDD, 99 VSS, 100 VDD
part B pins: 1 PE2, 2 PE3, 3 PE4, 4 PE5, 5 PE6, 7 PC13, 8 PC14-OSC32_IN, 9 PC15-OSC32_OUT, 12 PH0-OSC_IN, 13 PH1-OSC_OUT, 14 NRST, 15 PC0, 16 PC1, 17 PC2, 18 PC3, 23 PA0, 24 PA1, 25 PA2, 26 PA3, 29 PA4, 30 PA5, 31 PA6, 32 PA7, 33 PC4, 34 PC5, 35 PB0, 36 PB1, 37 PB2, 38 PE7, 39 PE8, 40 PE9, 41 PE10, 42 PE11, 43 PE12, 44 PE13, 45 PE14, 46 PE15, 47 PB10, 48 PB11, 51 PB12, 52 PB13, 53 PB14, 54 PB15, 55 PD8, 56 PD9, 57 PD10, 58 PD11, 59 PD12, 60 PD13, 61 PD14, 62 PD15, 63 PC6, 64 PC7, 65 PC8, 66 PC9, 67 PA8, 68 PA9, 69 PA10, 70 PA11, 71 PA12, 72 PA13, 76 PA14, 77 PA15, 78 PC10, 79 PC11, 80 PC12, 81 PD0, 82 PD1, 83 PD2, 84 PD3, 85 PD4, 86 PD5, 87 PD6, 88 PD7, 89 PB3, 90 PB4, 91 PB5, 92 PB6, 93 PB7, 94 BOOT0, 95 PB8, 96 PB9, 97 PE0, 98 PE1

## TC72-3.3MUA
designator U?, comment TC72-3.3MUA-ND
SENSOR TEMPERATURE SPI 8MSOP; Supplier Part Number 1: TC72-3.3MUA-ND; Supplier 1: Digi-Key
footprint TC72 Temperature Sensor (TSOP, 8-Leads, Body 3.00x3.00mm, Pitch 0.65mm, IPC Medium Density)
pins: 1 NC, 2 CE, 3 SCK, 4 GND, 5 SDO, 6 SDI, 7 NC, 8 VDD

## TC7660EOA
designator U?
IC REG SWITCHD CAP INV ADJ 8SOIC; Supplier 1: Digi-key; Supplier Part Number 1: TC7660EOA-ND
footprint TC7660EOA
pins: 2 CAP+, 3 GND, 4 CAP-, 5 VOUT, 6 LV, 7 OSC, 8 V+

## TC7662B
designator U?
Charge Pump DC to DC Voltage Converter
footprint 8-SOIC (Used for LMH6612)
pins: 1 BOOST, 2 CAP+, 3 GND, 4 CAP-, 5 Vout, 6 LV, 7 OSC, 8 V+

## TLC555CDR
designator U?
IC OSC MONO TIMING 2.1MHZ 8-SOIC; Supplier 1: Digi-Key; Supplier Part Number 1: 296-1336-1-ND
footprint TLC555CDR
pins: 1 GND, 2 TRIG, 3 OUT, 4 RESET, 5 CONT, 6 THRES, 7 DISCH, 8 VDD

## TLE2426IDR
designator U?, comment VRef Adj 2-20V
IC VREF GND REF ADJ 8SOIC; Supplier 1: Digi-Key; Supplier Part Number 1: 296-1345-1-ND
footprint SOIC-8pin (For 296-1345-1-ND)
pins: 1 Out, 2 Com, 3 In, 4 NC, 5 NC, 6 NC, 7 NC, 8 NR

## TLV1117LV33DCYR
designator *
IC REG LINEAR 3.3V 1A SOT223-4; Digi-Key Part Number: 296-28778-1-ND
footprint SOT23-4N (SOT223, 4-Leads, Body 6.50x7.00mm (avg), Pitch 2.30mm, IPC Medium Density)
pins: 1 GND, 2 Out, 3 Vin, 4 Out
text: 2, 4

## TLV70212DBVR
designator U?
IC REG LDO 1.2V 0.3A SOT23-5; Supplier 1: Digi-Key; Supplier Part Number 1: 296-29583-1-ND
footprint SOT23-5N (For LP5907)
pins: 1 IN, 2 GND, 3 EN, 4 NC, 5 OUT

## TMP122AIDBVT
designator TMP?, comment 296-15178-1-ND
SPI Temperature Sensor
footprint TMP122AIDBVT (SOT23)
pins: 1 Alert, 2 GND, 3 VCC, 4 SCK, 5 CS, 6 SO/I
text: TMP122 / TMP122AIDBVT

## TMS320f28379S
designator U?
IC MCU 200MHZ FPU DSP; Supplier 1: Digi-Key; Supplier Part Number 1: TMS320F28379SPTPT-ND
footprint PQFP-177N (TSQFP, 176-Leads, Body 24.00x24.00mm, Pitch 0.50mm, Thermal Pad 8.07x7.33mm, IPC Medium Density)
part A pins: 16 VDD, 21 VDD, 61 VDD, 76 VDD, 117 VDD, 126 VDD, 137 VDD, 153 VDD, 158 VDD, 169 VDD
part B pins: 3 VDDIO, 11 VDDIO, 15 VDDIO, 20 VDDIO, 26 VDDIO, 36 VDDA, 54 VDDA, 62 VDDIO, 68 VDDIO, 72 VDD3VFL, 75 VDDIO, 82 VDDIO, 88 VDDIO, 91 VDDIO, 99 VDDIO, 106 VDDIO, 114 VDDIO, 116 VDDIO, 119 VREGENZ, 120 VDDOSC, 125 VDDOSC, 127 VDDIO, 138 VDDIO, 147 VDDIO, 152 VDDIO, 159 VDDIO, 168 VDDIO
part C pins: 34 VSSA, 52 VSSA, 122 VSSOSC, 177 GND (EP)
part D pins: 77 TDI, 78 TDO, 79 ~{TRST}, 80 TMS, 81 TCK, 124 ~{XRS}
part E pins: 1 GPIO10, 2 GPIO11, 4 GPIO12, 5 GPIO13, 6 GPIO14, 7 GPIO15, 8 GPIO16, 9 GPIO17, 10 GPIO18, 12 GPIO19, 13 GPIO20, 14 GPIO21, 18 GPIO8, 19 GPIO9, 22 GPIO22, 23 GPIO23, 24 GPIO24, 25 GPIO25, 27 GPIO26, 28 GPIO27, 63 GPIO30, 64 GPIO28, 65 GPIO29, 66 GPIO31, 67 GPIO32, 69 GPIO33, 70 GPIO34, 71 GPIO35, 83 GPIO36, 84 GPIO37, 85 GPIO38, 86 GPIO39, 87 GPIO40, 89 GPIO41, 130 GPIO42, 131 GPIO43, 160 GPIO0, 161 GPIO1, 162 GPIO2, 163 GPIO3, 164 GPIO4, 165 GPIO5, 166 GPIO6, 167 GPIO7
part F pins: 17 GPIO99, 90 GPIO48, 93 GPIO49, 94 GPIO50, 95 GPIO51, 96 GPIO52, 97 GPIO53, 98 GPIO54, 100 GPIO55, 101 GPIO56, 102 GPIO57, 103 GPIO58, 104 GPIO59, 105 GPIO60, 107 GPIO61, 108 GPIO62, 109 GPIO63, 110 GPIO64, 111 GPIO65, 112 GPIO66, 113 GPIO44, 115 GPIO45, 118 GPIO133, 128 GPIO46, 129 GPIO47, 132 GPIO67, 133 GPIO68, 134 GPIO69, 135 GPIO70, 136 GPIO71, 139 GPIO72, 140 GPIO73, 141 GPIO74, 142 GPIO75, 143 GPIO76, 144 GPIO77, 145 GPIO78, 146 GPIO79, 148 GPIO80, 149 GPIO81, 150 GPIO82, 151 GPIO83, 154 GPIO84, 155 GPIO85, 156 GPIO86, 157 GPIO87, 170 GPIO88, 171 GPIO89, 172 GPIO90, 173 GPIO91, 174 GPIO92, 175 GPIO93, 176 GPIO94
part G pins: 29 ADCINC4, 30 ADCINC3, 31 ADCINC2, 32 VrefLOC, 33 VrefLOA, 35 VrefHIB, 37 VrefHIA, 38 ADCINA5, 39 ADCINA4, 40 ADCINA3, 41 ADCINA2, 42 ADCINA1, 43 ADCINA0, 44 ADCIN14, 45 ADCIN15, 46 ADCINB0, 47 ADCINB1, 48 ADCINB2, 49 ADCINB3, 50 VrefLOB, 51 VrefLOD, 53 VrefHIB, 55 VrefHID, 56 ADCIND0, 57 ADCIND1, 58 ADCIND2, 59 ADCIND3, 60 ADCIND4
part H pins: 121 X2, 123 X1
part A text: Internal 1.2V
part B text: IO 3.3V
part C text: GND
part D text: Programmer
part E text: GPIO[0:43]
part F text: GPIO[44:133]
part G text: ADC/DAC
part H text: Oscillator

## TPS54160DGQ
designator U?
Buck Switching Regulator IC Positive Adjustable 0.8V 1 Output 1.5A 10-TFSOP, 10-MSOP _0.118, 3.00mm Width_ Exposed Pad; MF: Texas Instruments; Availability: Unavailable; Package: TFSOP-10 Texas Instruments; SnapEDA_Link: https://www.snapeda.com/parts/TPS54160DGQ/Texas%20Instruments/view-part/393939/?ref=snap; Price: None; Value: *; MP: TPS54160DGQ
footprint SOIC-11
pins: 1 BOOT (out), 2 VIN (in), 3 EN (in), 4 SS/TR (power), 5 RT/CLK (in), 6 PWRGD (out), 7 VSENSE (in), 8 COMP (out), 9 GND, 10 PH (in), 11 EP

## TPS54332DDA
designator Q?  (value not drawn)
IC REG BUCK ADJ 3.5A 8SOPWRPAD; Supplier 1: Digi-Key; Supplier Part Number 1: 296-24141-5-ND
footprint TPS54332DDA (IC REG BUCK ADJ 3.5A 8SOPWRPAD)
pins: 1 BOOT, 2 VIN, 3 EN, 4 SS, 5 VSENSE, 6 COMP, 7 GND, 8 PH

## TPS54540DDAR
designator U?
IC REG BUCK SPLIT RAIL 8SOPWRPAD; Manufacturer 1: Texas Instruments; Manufacturer Part Number 1: TPS54540DDAR; Supplier Part Number 1: 296-39422-1-ND; Supplier 1: Digi-Key
footprint SOIC-8 EP (SOIC, 8-Leads, Body 4.90x3.90mm, Pitch 1.27mm, Thermal Pad 3.10x2.40mm, IPC Medium Density)
pins: 1 BOOT, 2 VIN, 3 EN, 4 RT/CLK, 5 FB, 6 COMP, 7 GND, 8 SW, 9 EP

## TPS73218DBVR
designator U?
IC REG LDO 1.8V 0.25A SOT23-5; Manufacturer 1: Texas Instruments; Manufacturer Part Number 1: TPS73218DBVR; Supplier Part Number 1: 296-41770-1-ND; Supplier 1: Digi-Key
footprint SOT-23-5 (SOT23, 5-Leads, Body 2.90x2.80mm, Pitch 0.95mm, IPC Medium Density)
pins: 1 VIN, 2 GND (power), 3 EN, 4 NR, 5 VOUT

## TPS79942DDCT
designator U?, comment LDO 4.2V
IC REG LDO 4.2V 0.2A 5SOT; Supplier 1: Digi-Key; Supplier Part Number 1: 296-32585-1-ND
footprint SOT23127P600-8N (Logic Level Shifter)
pins: 1 IN, 2 GND, 3 EN, 4 NR, 5 OUT

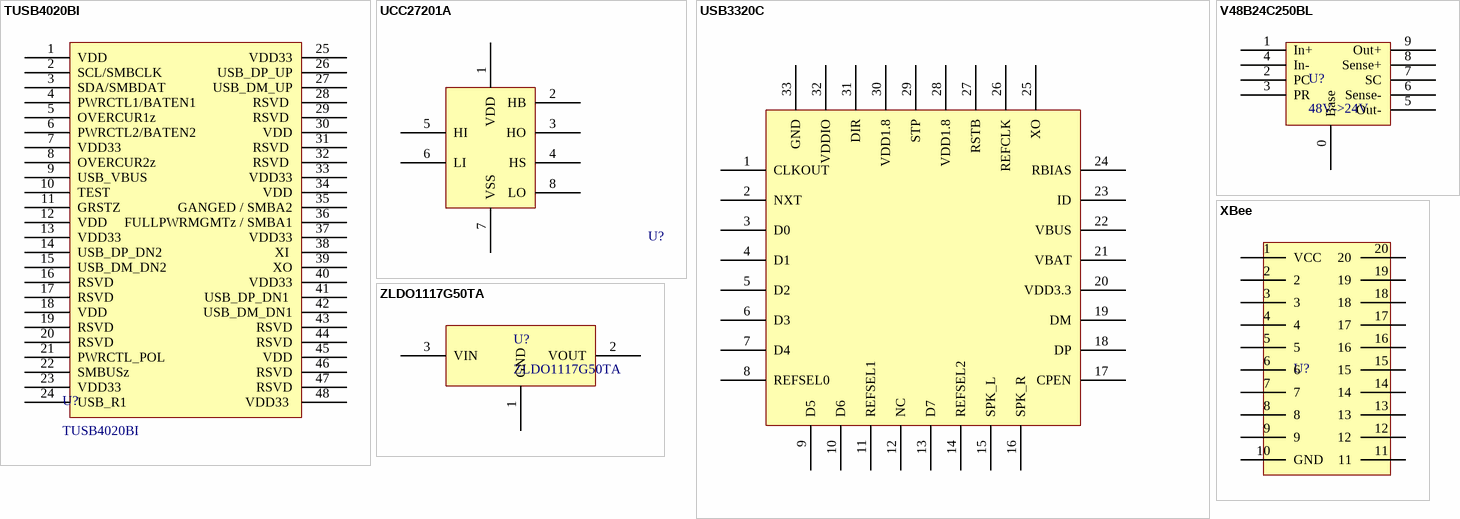
[diagram p7: symbols TUSB4020BI to ZLDO1117G50TA]

## TUSB4020BI
designator U?
IC USB 2.0 2PORT HUB IND 48HTQFP; Supplier 1: Digi-Key; Supplier Part Number 1: 296-43148-5-ND
footprint 48HTQFP (TSQFP, S-PQFP-G48, 48-Leads, Body 7.00x7.00mm, Pitch 0.50mm, IPC Medium Density)
pins: 1 VDD, 2 SCL/SMBCLK, 3 SDA/SMBDAT, 4 PWRCTL1/BATEN1, 5 OVERCUR1z, 6 PWRCTL2/BATEN2, 7 VDD33, 8 OVERCUR2z, 9 USB_VBUS, 10 TEST, 11 GRSTZ, 12 VDD, 13 VDD33, 14 USB_DP_DN2, 15 USB_DM_DN2 , 16 RSVD, 17 RSVD , 18 VDD, 19 RSVD, 20 RSVD, 21 PWRCTL_POL, 22 SMBUSz , 23 VDD33, 24 USB_R1 , 25 VDD33, 26 USB_DP_UP, 27 USB_DM_UP, 28 RSVD , 29 RSVD , 30 VDD, 31 RSVD , 32 RSVD , 33 VDD33, 34 VDD, 35 GANGED / SMBA2, 36 FULLPWRMGMTz / SMBA1, 37 VDD33, 38 XI , 39 XO, 40 VDD33, 41 USB_DP_DN1 , 42 USB_DM_DN1, 43 RSVD, 44 RSVD, 45 VDD, 46 RSVD, 47 RSVD, 48 VDD33 

## UCC27201A
designator U?  (value not drawn)
IC DVR HIGH/LOW SIDE 3A 8SOPWR; Supplier 1: Digi-Key; Supplier Part Number 1: 296-29356-1-ND
footprint UCC27201ADRMT (IC DVR HIGH/LOW SIDE 3A 8VSON)
footprint UCC27201A (120-V Boot, 3-A Peak, High Frequency, High-side/Low-side Driver)
pins: 1 VDD, 2 HB, 3 HO, 4 HS, 5 HI, 6 LI, 7 VSS, 8 LO

## USB3320C
designator U?
MULTI-FREQ USB 2.0 ULPI PHY; Supplier Part Number 1: USB3320C-EZK-ND; Supplier 1: Digi-Key
footprint QFN-32 (QFN, 32-Leads, Body 5.00x5.00mm, Pitch 0.50mm, Thermal Pad 3.30x3.30mm, IPC Medium Density)
pins: 1 CLKOUT, 2 NXT, 3 D0, 4 D1, 5 D2, 6 D3, 7 D4, 8 REFSEL0, 9 D5, 10 D6, 11 REFSEL1, 12 NC, 13 D7, 14 REFSEL2, 15 SPK_L, 16 SPK_R, 17 CPEN, 18 DP, 19 DM, 20 VDD3.3, 21 VBAT, 22 VBUS, 23 ID, 24 RBIAS, 25 XO, 26 REFCLK, 27 RSTB, 28 VDD1.8, 29 STP, 30 VDD1.8, 31 DIR, 32 VDDIO, 33 GND

## V48B24C250BL
designator U?, comment 48V->24V
CONVERTER MOD DC/DC 24V 250W; Supplier 1: Digi-Key; Supplier Part Number 1: 1102-1414-ND
footprint FASTRAK_MINI_ONBOARD_MOUNT
pins: 0 Base, 1 In+, 2 PC, 3 PR, 4 In-, 5 Out-, 6 Sense-, 7 SC, 8 Sense+, 9 Out+

## XBee
designator U?  (value not drawn)
XBee radio; Supplier 1: Digi-Key; Supplier Part Number 1: 602-1181-ND
footprint XBee
pins: 1 VCC, 2, 3, 4, 5, 6, 7, 8, 9, 10 GND, 11, 12, 13, 14, 15, 16, 17, 18, 19, 20

## ZLDO1117G50TA
designator U?
IC REG LDO 5V 1A SOT223-3; Supplier 1: Digi-Key; Supplier Part Number 1: ZLDO1117G50DICT-ND
footprint ZLDO1117G50TA
pins: 1 GND (power), 2 VOUT, 3 VIN